# Altium schematic symbol library MyLib.SCHLIB: 88 symbols
Pins are listed as number, name and electrical type; pins without a type are passive.

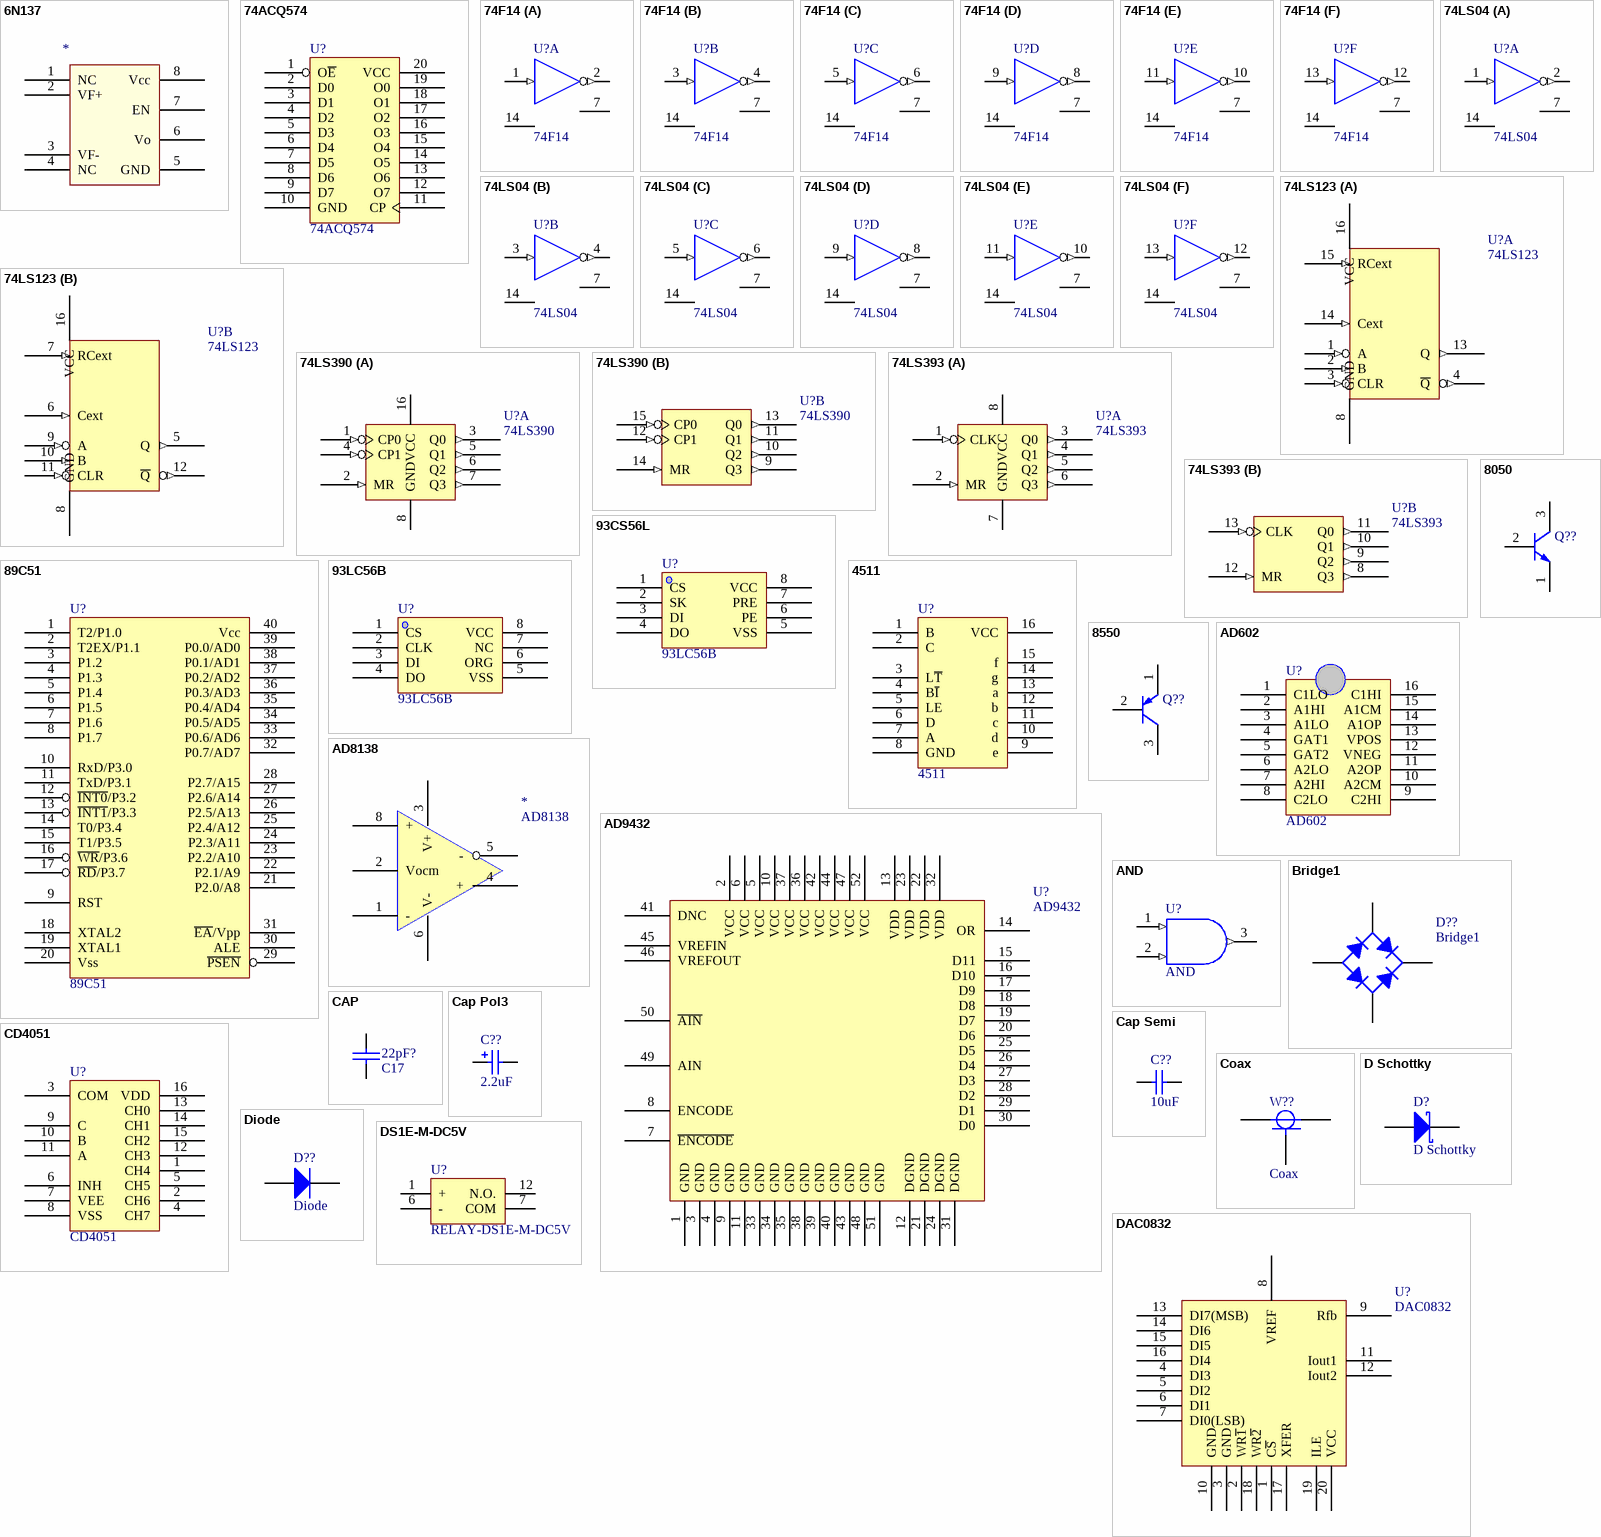
[diagram p0: symbols 6N137 to DS1E-M-DC5V]

## 6N137
designator *  (value not drawn)
pins: 1 NC, 2 VF+, 3 VF-, 4 NC, 5 GND, 6 Vo, 7 EN, 8 Vcc

## 74ACQ574
designator U?
footprint PDIP-20
footprint SOP20
pins: 1 O~{E}, 2 D0, 3 D1, 4 D2, 5 D3, 6 D4, 7 D5, 8 D6, 9 D7, 10 GND, 11 CP, 12 O7, 13 O6, 14 O5, 15 O4, 16 O3, 17 O2, 18 O1, 19 O0, 20 VCC

## 74F14
designator U?
Hex Schmitt-Trigger Inverter
footprint DIP-14
simulation model 74F14 (SIMCODE)
footprint DIP-14
pins on every part: 7 GND (power) hidden to GND, 14 VCC (power) hidden to VCC
part A pins: 1 A (in), 2 Y (out)
part B pins: 3 A (in), 4 Y (out)
part C pins: 5 A (in), 6 Y (out)
part D pins: 8 Y (out), 9 A (in)
part E pins: 10 Y (out), 11 A (in)
part F pins: 12 Y (out), 13 A (in)

## 74LS04
designator U?
Hex Inverter
footprint DIP-14
simulation model 74LS04 (SIMCODE)
footprint DIP-14
pins on every part: 7 GND (power) hidden to GND, 14 VCC (power) hidden to VCC
part A pins: 1 A (in), 2 Y (out)
part B pins: 3 A (in), 4 Y (out)
part C pins: 5 A (in), 6 Y (out)
part D pins: 8 Y (out), 9 A (in)
part E pins: 10 Y (out), 11 A (in)
part F pins: 12 Y (out), 13 A (in)

## 74LS123
designator U?
Part Field 1: 0; Part Field 10: 1000u; Part Field 2: 0; Part Field 3: 0; Part Field 4: 0; Part Field 5: 1; Part Field 6: 0; Part Field 7: 1u; Part Field 8: 1u; Part Field 9: 500u
footprint DIP-16
footprint DIP-16
pins on every part: 8 GND (power) hidden to GND, 16 VCC (power) hidden to VCC
part A pins: 1 A (in), 2 B (in), 3 CLR (in), 4 ~{Q} (out), 13 Q (out), 14 Cext (in), 15 RCext (in)
part B pins: 5 Q (out), 6 Cext (in), 7 RCext (in), 9 A (in), 10 B (in), 11 CLR (in), 12 ~{Q} (out)

## 74LS390
designator U?
Part Field 1: 0; Part Field 10: 1000u; Part Field 2: 0; Part Field 3: 0; Part Field 4: 0; Part Field 5: 1; Part Field 6: 0; Part Field 7: 1u; Part Field 8: 1u; Part Field 9: 500u
footprint DIP-16; pin to pad 16>9
footprint DIP-16; pin to pad 16>9
part A pins: 1 CP0 (in), 2 MR (in), 3 Q0 (out), 4 CP1 (in), 5 Q1 (out), 6 Q2 (out), 7 Q3 (out), 8 GND, 16 VCC
part B pins: 9 Q3 (out), 10 Q2 (out), 11 Q1 (out), 12 CP1 (in), 13 Q0 (out), 14 MR (in), 15 CP0 (in)

## 74LS393
designator U?
Part Field 1: 0; Part Field 10: 1000u; Part Field 2: 0; Part Field 3: 0; Part Field 4: 0; Part Field 5: 1; Part Field 6: 0; Part Field 7: 1u; Part Field 8: 1u; Part Field 9: 500u
footprint DIP-14
footprint DIP-14
part A pins: 1 CLK (in), 2 MR (in), 3 Q0 (out), 4 Q1 (out), 5 Q2 (out), 6 Q3 (out), 7 GND, 8 VCC
part B pins: 8 Q3 (out), 9 Q2 (out), 10 Q1 (out), 11 Q0 (out), 12 MR (in), 13 CLK (in)

## 89C51
designator U?
footprint DIP-40 (Model Description)
pins: 1 T2/P1.0, 2 T2EX/P1.1, 3 P1.2, 4 P1.3, 5 P1.4, 6 P1.5, 7 P1.6, 8 P1.7, 9 RST, 10 RxD/P3.0, 11 TxD/P3.1, 12 ~{INT0}/P3.2, 13 ~{INT1}/P3.3, 14 T0/P3.4, 15 T1/P3.5, 16 ~{WR}/P3.6, 17 ~{RD}/P3.7, 18 XTAL2, 19 XTAL1, 20 Vss, 21 P2.0/A8, 22 P2.1/A9, 23 P2.2/A10, 24 P2.3/A11, 25 P2.4/A12, 26 P2.5/A13, 27 P2.6/A14, 28 P2.7/A15, 29 ~{PSEN}, 30 ALE, 31 ~{EA}/Vpp, 32 P0.7/AD7, 33 P0.6/AD6, 34 P0.5/AD5, 35 P0.4/AD4, 36 P0.3/AD3, 37 P0.2/AD2, 38 P0.1/AD1, 39 P0.0/AD0, 40 Vcc

## 93CS56L
designator U?, comment 93LC56B
93CS56L
footprint PDIP8; pin to pad 3>5 4>6 5>7 6>8 7>3 8>4
footprint DIP-8; pin to pad 3>5 4>6 5>7 6>8 7>3 8>4
pins: 1 CS, 2 SK, 3 DI, 4 DO, 5 VSS, 6 PE, 7 PRE, 8 VCC

## 93LC56B
designator U?
footprint PDIP8; pin to pad 3>5 4>6 5>7 6>8 7>3 8>4
footprint DIP-8; pin to pad 3>5 4>6 5>7 6>8 7>3 8>4
pins: 1 CS, 2 CLK, 3 DI, 4 DO, 5 VSS, 6 ORG, 7 NC, 8 VCC

## 4511
designator U?
footprint dip-16 (Model Description)
pins: 1 B, 2 C, 3 L~{T}, 4 B~{I}, 5 LE, 6 D, 7 A, 8 GND (power), 9 e, 10 d, 11 c, 12 b, 13 a, 14 g, 15 f, 16 VCC (power)

## 8050
designator Q??  (value not drawn)
NPN Bipolar Transistor; Manufacturer: Generic Components; Class: Discrete; SubClass: BJT - Low Power; Published: 08/06/2000; Publisher: Altium Hobart Technology Centre
footprint SO-G3/C2.5 (SOT-23)
simulation model QNPN (NPN)
signal-integrity model NPN
footprint BCY-W3/D4.7 (Model Description)
footprint NPN
pins: 1 e, 2 b, 3 c

## 8550
designator Q??  (value not drawn)
PNP Bipolar Transistor; Manufacturer: Generic Components; Class: Discrete; SubClass: BJT - Low Power; Published: 08/06/2000; Publisher: Altium Hobart Technology Centre
footprint SO-G3/C2.5 (SOT-23)
signal-integrity model PNP
footprint BCY-W3/D4.7 (Model Description)
pins: 1 e, 2 b, 3 c

## AD602
designator U?
footprint DIP-16
footprint SO-G16 (SO16)
pins: 1 C1LO, 2 A1HI, 3 A1LO, 4 GAT1, 5 GAT2, 6 A2LO, 7 A2HI, 8 C2LO, 9 C2HI, 10 A2CM, 11 A2OP, 12 VNEG, 13 VPOS, 14 A1OP, 15 A1CM, 16 C1HI

## AD8138
designator *
pins: 1 -, 2 Vocm, 3 V+, 4 +, 5 -, 6 V-, 8 +

## AD9432
designator U?
footprint TQFP80; pin to pad 45>37 46>38 47>39 48>40 49>41 50>42 51>43 52>44
pins: 1 GND, 2 VCC, 3 GND, 4 GND, 5 VCC, 6 VCC, 7 ~{ENCODE}, 8 ENCODE, 9 GND, 10 VCC, 11 GND, 12 DGND, 13 VDD, 14 OR, 15 D11, 16 D10, 17 D9, 18 D8, 19 D7, 20 D6, 21 DGND, 22 VDD, 23 VDD, 24 DGND, 25 D5, 26 D4, 27 D3, 28 D2, 29 D1, 30 D0, 31 DGND, 32 VDD, 33 GND, 34 GND, 35 GND, 36 VCC, 37 VCC, 38 GND, 39 GND, 40 GND, 41 DNC, 42 VCC, 43 GND, 44 VCC, 45 VREFIN, 46 VREFOUT, 47 VCC, 48 GND, 49 AIN, 50 ~{AIN}, 51 GND, 52 VCC

## AND
designator U?
AND Gate
footprint DIP-14
pins: 1 (in), 2 (in), 3 (out)

## Bridge1
designator D??
Full Wave Diode Bridge; Manufacturer: Generic Components; Class: Discrete; SubClass: Rectifier - Bridge; Published: 08/06/2000; Publisher: Altium Hobart Technology Centre
footprint E-BIP-P4/D10
simulation model BRIDGE (Spice Subcircuit)
pins: 1 A, 2 C, 3 C, 4 K

## CAP
designator 22pF?, comment C17
Capacitor
footprint CC1005-0402 (0402)
footprint RAD0.3
footprint RAD0.4
pins: 1, 2

## Cap Pol3
designator C??  value 2.2uF  (hidden comment: Cap Pol3)
Polarized Capacitor (Surface Mount); Manufacturer: Generic Components; Class: Passive; Published: 08/06/2000; Publisher: Altium Hobart Technology Centre; SubClass: Capacitor
footprint CC3216-1206
simulation model CAP (Capacitor)
signal-integrity model Cap Pol
pins: 1, 2

## Cap Semi
designator C??, comment value 10uF  (hidden comment: Capacitor)
Capacitor (Semiconductor SIM Model); Manufacturer: Generic Components; Class: Passive; Published: 08/06/2000; Publisher: Altium Hobart Technology Centre; SubClass: Capacitor
footprint C3216-1206
simulation model CAP (Semiconductor Capacitor)
signal-integrity model Cap Semi
pins: 1, 2

## CD4051
designator U?
footprint dip-16 (Model Description)
pins: 1 CH4, 2 CH6, 3 COM, 4 CH7, 5 CH5, 6 INH, 7 VEE (power), 8 VSS (power), 9 C, 10 B, 11 A, 12 CH3, 13 CH0, 14 CH1, 15 CH2, 16 VDD (power)

## Coax
designator W??
Coaxial; Manufacturer: Generic Components; Published: 1999
footprint BCY-W3
pins: 1 CENTER 1, 2 CENTER 2, 3 SHIELD

## D Schottky
designator D?
Schottky Diode; Manufacturer: Generic Components; Class: Discrete; SubClass: Diode - Schottky; Published: 08/06/2000; Publisher: Altium Hobart Technology Centre
footprint DSO-C2/X2.3 (DO-214AA)
simulation model SKYDIODE (Diode)
signal-integrity model D Schottky
pins: 1 A, 2 K

## DAC0832
designator U?
pins: 1 C~{S}, 2 WR~{1}, 3 GND, 4 DI3, 5 DI2, 6 DI1, 7 DI0(LSB), 8 VREF, 9 Rfb, 10 GND, 11 Iout1, 12 Iout2, 13 DI7(MSB), 14 DI6, 15 DI5, 16 DI4, 17 XFER, 18 WR~{2}, 19 ILE, 20 VCC

## Diode
designator D??
Default Diode; Manufacturer: Generic Components; Class: Discrete; SubClass: Diode - Switching; Published: 08/06/2000; Publisher: Altium Hobart Technology Centre
footprint DSO-C2/X3.3 (DO-214AB)
simulation model DIODE (Diode)
signal-integrity model Diode
pins: 1 A, 2 K

## DS1E-M-DC5V
designator U?, comment RELAY-DS1E-M-DC5V
footprint DIP-IC12 (Model Description)
pins: 1 +, 6 -, 7 COM, 12 N.O.

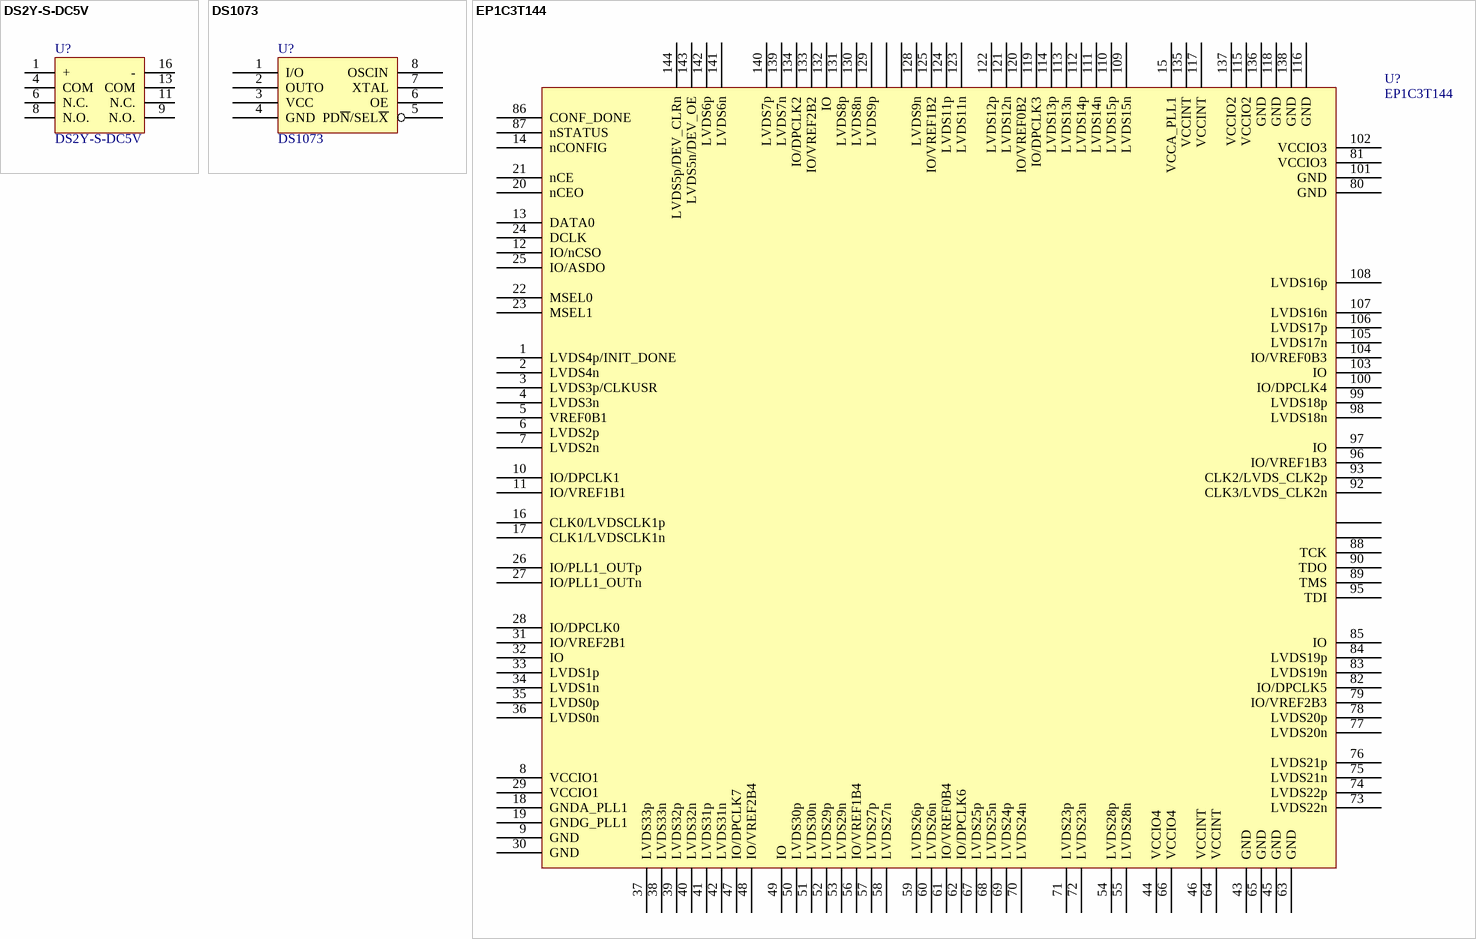
[diagram p1: symbols DS2Y-S-DC5V to EP1C3T144]

## DS2Y-S-DC5V
designator U?
footprint IC-16
pins: 1 +, 4 COM, 6 N.C., 8 N.O., 9 N.O., 11 N.C., 13 COM, 16 -

## DS1073
designator U?
footprint DIP-8
footprint DIP-8
pins: 1 I/O, 2 OUTO, 3 VCC, 4 GND, 5 PD~{N}/SEL~{X}, 6 OE, 7 XTAL, 8 OSCIN

## EP1C3T144
designator U?
footprint F-QFP20X20-G144/N (Model Description)
pins: 1 LVDS4p/INIT_DONE, 2 LVDS4n, 3 LVDS3p/CLKUSR, 4 LVDS3n, 5 VREF0B1, 6 LVDS2p, 7 LVDS2n, 8 VCCIO1, 9 GND, 10 IO/DPCLK1, 11 IO/VREF1B1, 12 IO/nCSO, 13 DATA0, 14 nCONFIG, 15 VCCA_PLL1, 16 CLK0/LVDSCLK1p, 17 CLK1/LVDSCLK1n, 18 GNDA_PLL1, 19 GNDG_PLL1, 20 nCEO, 21 nCE, 22 MSEL0, 23 MSEL1, 24 DCLK, 25 IO/ASDO, 26 IO/PLL1_OUTp, 27 IO/PLL1_OUTn, 28 IO/DPCLK0, 29 VCCIO1, 30 GND, 31 IO/VREF2B1, 32 IO, 33 LVDS1p, 34 LVDS1n, 35 LVDS0p, 36 LVDS0n, 37 LVDS33p, 38 LVDS33n, 39 LVDS32p, 40 LVDS32n, 41 LVDS31p, 42 LVDS31n, 43 GND, 44 VCCIO4, 45 GND, 46 VCCINT, 47 IO/DPCLK7, 48 IO/VREF2B4, 49 IO, 50 LVDS30p, 51 LVDS30n, 52 LVDS29p, 53 LVDS29n, 54 LVDS28p hidden to LVDS28p, 55 LVDS28n hidden to LVDS28n, 56 IO/VREF1B4, 57 LVDS27p, 58 LVDS27n, 59 LVDS26p, 60 LVDS26n, 61 IO/VREF0B4, 62 IO/DPCLK6, 63 GND, 64 VCCINT, 65 GND, 66 VCCIO4, 67 LVDS25p, 68 LVDS25n, 69 LVDS24p, 70 LVDS24n, 71 LVDS23p, 72 LVDS23n, 73 LVDS22n, 74 LVDS22p, 75 LVDS21n, 76 LVDS21p, 77 LVDS20n, 78 LVDS20p, 79 IO/VREF2B3, 80 GND, 81 VCCIO3, 82 IO/DPCLK5, 83 LVDS19n, 84 LVDS19p, 85 IO, 86 CONF_DONE, 87 nSTATUS, 88 TCK, 89 TMS, 90 TDO, 91 IO hidden to IO, 92 CLK3/LVDS_CLK2n, 93 CLK2/LVDS_CLK2p, 94 IO hidden to IO, 95 TDI, 96 IO/VREF1B3, 97 IO, 98 LVDS18n, 99 LVDS18p, 100 IO/DPCLK4, 101 GND, 102 VCCIO3, 103 IO, 104 IO/VREF0B3, 105 LVDS17n, 106 LVDS17p, 107 LVDS16n, 108 LVDS16p, 109 LVDS15n, 110 LVDS15p, 111 LVDS14n, 112 LVDS14p, 113 LVDS13n, 114 LVDS13p, 115 VCCIO2, 116 GND, 117 VCCINT, 118 GND, 119 IO/DPCLK3, 120 IO/VREF0B2, 121 LVDS12n, 122 LVDS12p, 123 LVDS11n, 124 LVDS11p, 125 IO/VREF1B2, 126 LVDS10n hidden to LVDS10n, 127 LVDS10p hidden to LVDS10p, 128 LVDS9n, 129 LVDS9p, 130 LVDS8n, 131 LVDS8p, 132 IO, 133 IO/VREF2B2, 134 IO/DPCLK2, 135 VCCINT, 136 GND, 137 VCCIO2, 138 GND, 139 LVDS7n, 140 LVDS7p, 141 LVDS6n, 142 LVDS6p, 143 LVDS5n/DEV_OE, 144 LVDS5p/DEV_CLRn

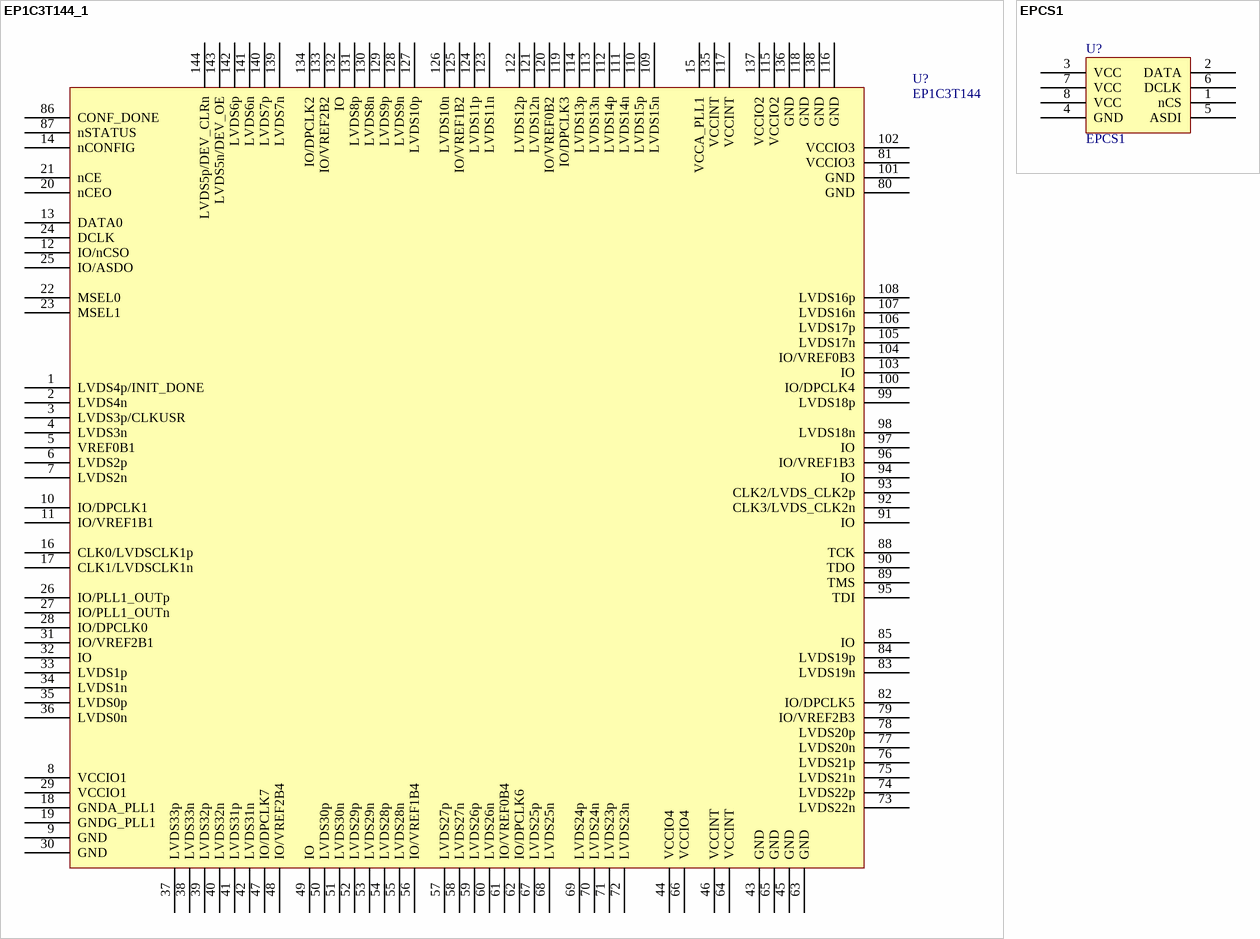
[diagram p2: symbols EP1C3T144_1 to EPCS1]

## EP1C3T144_1
designator U?, comment EP1C3T144
footprint F-QFP20X20-G144/N (Model Description)
pins: 1 LVDS4p/INIT_DONE, 2 LVDS4n, 3 LVDS3p/CLKUSR, 4 LVDS3n, 5 VREF0B1, 6 LVDS2p, 7 LVDS2n, 8 VCCIO1, 9 GND, 10 IO/DPCLK1, 11 IO/VREF1B1, 12 IO/nCSO, 13 DATA0, 14 nCONFIG, 15 VCCA_PLL1, 16 CLK0/LVDSCLK1p, 17 CLK1/LVDSCLK1n, 18 GNDA_PLL1, 19 GNDG_PLL1, 20 nCEO, 21 nCE, 22 MSEL0, 23 MSEL1, 24 DCLK, 25 IO/ASDO, 26 IO/PLL1_OUTp, 27 IO/PLL1_OUTn, 28 IO/DPCLK0, 29 VCCIO1, 30 GND, 31 IO/VREF2B1, 32 IO, 33 LVDS1p, 34 LVDS1n, 35 LVDS0p, 36 LVDS0n, 37 LVDS33p, 38 LVDS33n, 39 LVDS32p, 40 LVDS32n, 41 LVDS31p, 42 LVDS31n, 43 GND, 44 VCCIO4, 45 GND, 46 VCCINT, 47 IO/DPCLK7, 48 IO/VREF2B4, 49 IO, 50 LVDS30p, 51 LVDS30n, 52 LVDS29p, 53 LVDS29n, 54 LVDS28p, 55 LVDS28n, 56 IO/VREF1B4, 57 LVDS27p, 58 LVDS27n, 59 LVDS26p, 60 LVDS26n, 61 IO/VREF0B4, 62 IO/DPCLK6, 63 GND, 64 VCCINT, 65 GND, 66 VCCIO4, 67 LVDS25p, 68 LVDS25n, 69 LVDS24p, 70 LVDS24n, 71 LVDS23p, 72 LVDS23n, 73 LVDS22n, 74 LVDS22p, 75 LVDS21n, 76 LVDS21p, 77 LVDS20n, 78 LVDS20p, 79 IO/VREF2B3, 80 GND, 81 VCCIO3, 82 IO/DPCLK5, 83 LVDS19n, 84 LVDS19p, 85 IO, 86 CONF_DONE, 87 nSTATUS, 88 TCK, 89 TMS, 90 TDO, 91 IO, 92 CLK3/LVDS_CLK2n, 93 CLK2/LVDS_CLK2p, 94 IO, 95 TDI, 96 IO/VREF1B3, 97 IO, 98 LVDS18n, 99 LVDS18p, 100 IO/DPCLK4, 101 GND, 102 VCCIO3, 103 IO, 104 IO/VREF0B3, 105 LVDS17n, 106 LVDS17p, 107 LVDS16n, 108 LVDS16p, 109 LVDS15n, 110 LVDS15p, 111 LVDS14n, 112 LVDS14p, 113 LVDS13n, 114 LVDS13p, 115 VCCIO2, 116 GND, 117 VCCINT, 118 GND, 119 IO/DPCLK3, 120 IO/VREF0B2, 121 LVDS12n, 122 LVDS12p, 123 LVDS11n, 124 LVDS11p, 125 IO/VREF1B2, 126 LVDS10n, 127 LVDS10p, 128 LVDS9n, 129 LVDS9p, 130 LVDS8n, 131 LVDS8p, 132 IO, 133 IO/VREF2B2, 134 IO/DPCLK2, 135 VCCINT, 136 GND, 137 VCCIO2, 138 GND, 139 LVDS7n, 140 LVDS7p, 141 LVDS6n, 142 LVDS6p, 143 LVDS5n/DEV_OE, 144 LVDS5p/DEV_CLRn

## EPCS1
designator U?
footprint SO-G8 (Model Description)
footprint SO-G8 (Model Description)
pins: 1 nCS, 2 DATA, 3 VCC, 4 GND, 5 ASDI, 6 DCLK, 7 VCC, 8 VCC

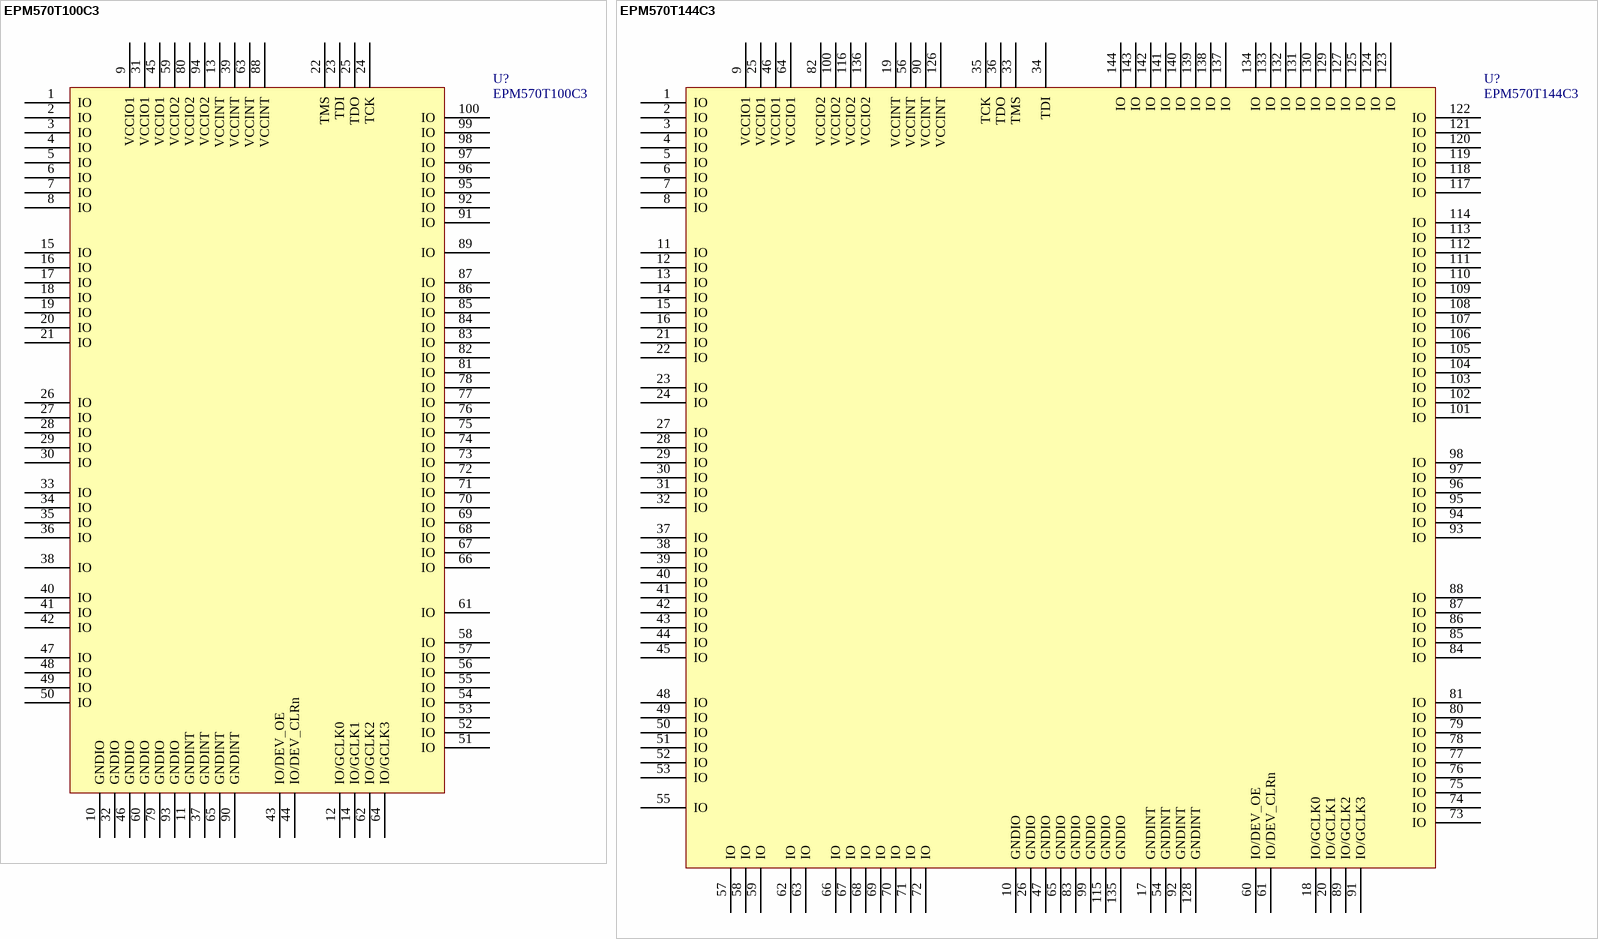
[diagram p3: symbols EPM570T100C3 to EPM570T144C3]

## EPM570T100C3
designator U?
footprint F-QFP14X14-G100/N (TQFP100)
pins: 1 IO, 2 IO, 3 IO, 4 IO, 5 IO, 6 IO, 7 IO, 8 IO, 9 VCCIO1, 10 GNDIO, 11 GNDINT, 12 IO/GCLK0, 13 VCCINT, 14 IO/GCLK1, 15 IO, 16 IO, 17 IO, 18 IO, 19 IO, 20 IO, 21 IO, 22 TMS, 23 TDI, 24 TCK, 25 TDO, 26 IO, 27 IO, 28 IO, 29 IO, 30 IO, 31 VCCIO1, 32 GNDIO, 33 IO, 34 IO, 35 IO, 36 IO, 37 GNDINT, 38 IO, 39 VCCINT, 40 IO, 41 IO, 42 IO, 43 IO/DEV_OE, 44 IO/DEV_CLRn, 45 VCCIO1, 46 GNDIO, 47 IO, 48 IO, 49 IO, 50 IO, 51 IO, 52 IO, 53 IO, 54 IO, 55 IO, 56 IO, 57 IO, 58 IO, 59 VCCIO2, 60 GNDIO, 61 IO, 62 IO/GCLK2, 63 VCCINT, 64 IO/GCLK3, 65 GNDINT, 66 IO, 67 IO, 68 IO, 69 IO, 70 IO, 71 IO, 72 IO, 73 IO, 74 IO, 75 IO, 76 IO, 77 IO, 78 IO, 79 GNDIO, 80 VCCIO2, 81 IO, 82 IO, 83 IO, 84 IO, 85 IO, 86 IO, 87 IO, 88 VCCINT, 89 IO, 90 GNDINT, 91 IO, 92 IO, 93 GNDIO, 94 VCCIO2, 95 IO, 96 IO, 97 IO, 98 IO, 99 IO, 100 IO

## EPM570T144C3
designator U?
footprint F-QFP20X20-G144/N (Model Description)
pins: 1 IO, 2 IO, 3 IO, 4 IO, 5 IO, 6 IO, 7 IO, 8 IO, 9 VCCIO1, 10 GNDIO, 11 IO, 12 IO, 13 IO, 14 IO, 15 IO, 16 IO, 17 GNDINT, 18 IO/GCLK0, 19 VCCINT, 20 IO/GCLK1, 21 IO, 22 IO, 23 IO, 24 IO, 25 VCCIO1, 26 GNDIO, 27 IO, 28 IO, 29 IO, 30 IO, 31 IO, 32 IO, 33 TMS, 34 TDI, 35 TCK, 36 TDO, 37 IO, 38 IO, 39 IO, 40 IO, 41 IO, 42 IO, 43 IO, 44 IO, 45 IO, 46 VCCIO1, 47 GNDIO, 48 IO, 49 IO, 50 IO, 51 IO, 52 IO, 53 IO, 54 GNDINT, 55 IO, 56 VCCINT, 57 IO, 58 IO, 59 IO, 60 IO/DEV_OE, 61 IO/DEV_CLRn, 62 IO, 63 IO, 64 VCCIO1, 65 GNDIO, 66 IO, 67 IO, 68 IO, 69 IO, 70 IO, 71 IO, 72 IO, 73 IO, 74 IO, 75 IO, 76 IO, 77 IO, 78 IO, 79 IO, 80 IO, 81 IO, 82 VCCIO2, 83 GNDIO, 84 IO, 85 IO, 86 IO, 87 IO, 88 IO, 89 IO/GCLK2, 90 VCCINT, 91 IO/GCLK3, 92 GNDINT, 93 IO, 94 IO, 95 IO, 96 IO, 97 IO, 98 IO, 99 GNDIO, 100 VCCIO2, 101 IO, 102 IO, 103 IO, 104 IO, 105 IO, 106 IO, 107 IO, 108 IO, 109 IO, 110 IO, 111 IO, 112 IO, 113 IO, 114 IO, 115 GNDIO, 116 VCCIO2, 117 IO, 118 IO, 119 IO, 120 IO, 121 IO, 122 IO, 123 IO, 124 IO, 125 IO, 126 VCCINT, 127 IO, 128 GNDINT, 129 IO, 130 IO, 131 IO, 132 IO, 133 IO, 134 IO, 135 GNDIO, 136 VCCIO2, 137 IO, 138 IO, 139 IO, 140 IO, 141 IO, 142 IO, 143 IO, 144 IO

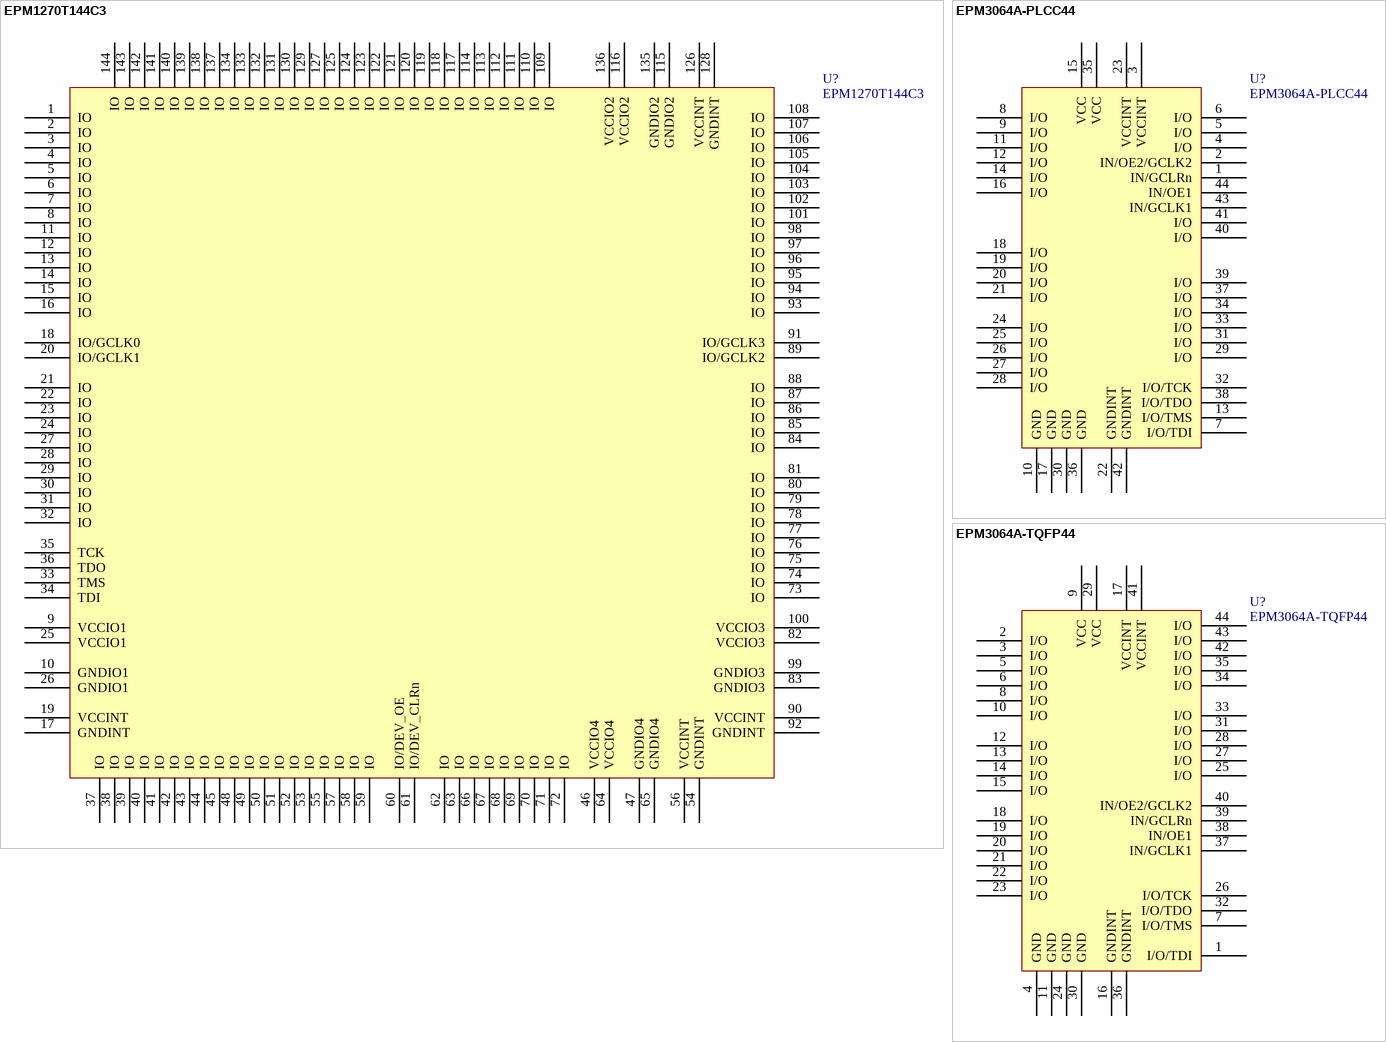
[diagram p4: symbols EPM1270T144C3 to EPM3064A-TQFP44]

## EPM1270T144C3
designator U?
footprint F-QFP20X20-G144/N (Model Description)
pins: 1 IO, 2 IO, 3 IO, 4 IO, 5 IO, 6 IO, 7 IO, 8 IO, 9 VCCIO1, 10 GNDIO1, 11 IO, 12 IO, 13 IO, 14 IO, 15 IO, 16 IO, 17 GNDINT, 18 IO/GCLK0, 19 VCCINT, 20 IO/GCLK1, 21 IO, 22 IO, 23 IO, 24 IO, 25 VCCIO1, 26 GNDIO1, 27 IO, 28 IO, 29 IO, 30 IO, 31 IO, 32 IO, 33 TMS, 34 TDI, 35 TCK, 36 TDO, 37 IO, 38 IO, 39 IO, 40 IO, 41 IO, 42 IO, 43 IO, 44 IO, 45 IO, 46 VCCIO4, 47 GNDIO4, 48 IO, 49 IO, 50 IO, 51 IO, 52 IO, 53 IO, 54 GNDINT, 55 IO, 56 VCCINT, 57 IO, 58 IO, 59 IO, 60 IO/DEV_OE, 61 IO/DEV_CLRn, 62 IO, 63 IO, 64 VCCIO4, 65 GNDIO4, 66 IO, 67 IO, 68 IO, 69 IO, 70 IO, 71 IO, 72 IO, 73 IO, 74 IO, 75 IO, 76 IO, 77 IO, 78 IO, 79 IO, 80 IO, 81 IO, 82 VCCIO3, 83 GNDIO3, 84 IO, 85 IO, 86 IO, 87 IO, 88 IO, 89 IO/GCLK2, 90 VCCINT, 91 IO/GCLK3, 92 GNDINT, 93 IO, 94 IO, 95 IO, 96 IO, 97 IO, 98 IO, 99 GNDIO3, 100 VCCIO3, 101 IO, 102 IO, 103 IO, 104 IO, 105 IO, 106 IO, 107 IO, 108 IO, 109 IO, 110 IO, 111 IO, 112 IO, 113 IO, 114 IO, 115 GNDIO2, 116 VCCIO2, 117 IO, 118 IO, 119 IO, 120 IO, 121 IO, 122 IO, 123 IO, 124 IO, 125 IO, 126 VCCINT, 127 IO, 128 GNDINT, 129 IO, 130 IO, 131 IO, 132 IO, 133 IO, 134 IO, 135 GNDIO2, 136 VCCIO2, 137 IO, 138 IO, 139 IO, 140 IO, 141 IO, 142 IO, 143 IO, 144 IO

## EPM3064A-PLCC44
designator U?
footprint PLCC44 - CenterIndex (Model Description)
pins: 1 IN/GCLRn, 2 IN/OE2/GCLK2, 3 VCCINT, 4 I/O, 5 I/O, 6 I/O, 7 I/O/TDI, 8 I/O, 9 I/O, 10 GND, 11 I/O, 12 I/O, 13 I/O/TMS, 14 I/O, 15 VCC, 16 I/O, 17 GND, 18 I/O, 19 I/O, 20 I/O, 21 I/O, 22 GNDINT, 23 VCCINT, 24 I/O, 25 I/O, 26 I/O, 27 I/O, 28 I/O, 29 I/O, 30 GND, 31 I/O, 32 I/O/TCK, 33 I/O, 34 I/O, 35 VCC, 36 GND, 37 I/O, 38 I/O/TDO, 39 I/O, 40 I/O, 41 I/O, 42 GNDINT, 43 IN/GCLK1, 44 IN/OE1

## EPM3064A-TQFP44
designator U?
footprint Model Name (Model Description)
pins: 1 I/O/TDI, 2 I/O, 3 I/O, 4 GND, 5 I/O, 6 I/O, 7 I/O/TMS, 8 I/O, 9 VCC, 10 I/O, 11 GND, 12 I/O, 13 I/O, 14 I/O, 15 I/O, 16 GNDINT, 17 VCCINT, 18 I/O, 19 I/O, 20 I/O, 21 I/O, 22 I/O, 23 I/O, 24 GND, 25 I/O, 26 I/O/TCK, 27 I/O, 28 I/O, 29 VCC, 30 GND, 31 I/O, 32 I/O/TDO, 33 I/O, 34 I/O, 35 I/O, 36 GNDINT, 37 IN/GCLK1, 38 IN/OE1, 39 IN/GCLRn, 40 IN/OE2/GCLK2, 41 VCCINT, 42 I/O, 43 I/O, 44 I/O

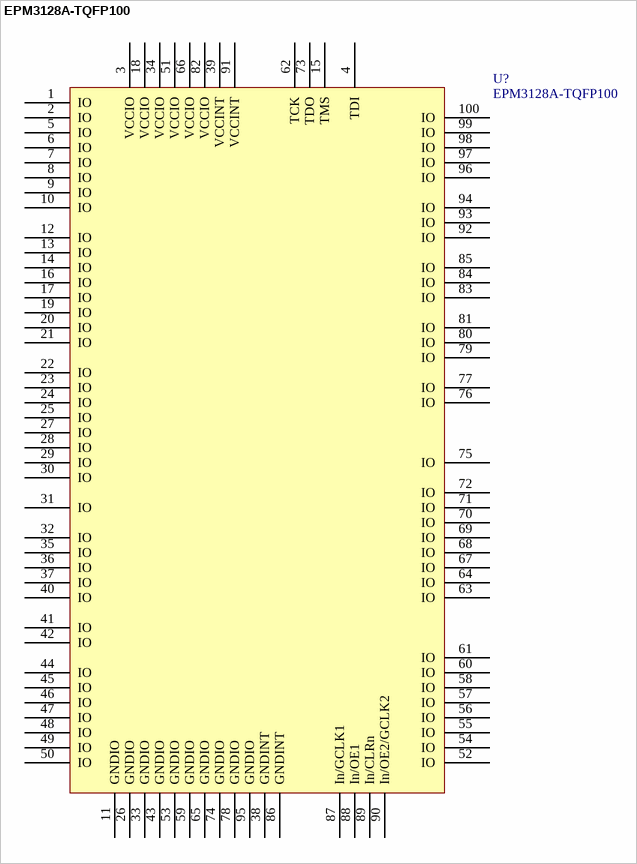
[diagram p5: symbol EPM3128A-TQFP100]

## EPM3128A-TQFP100
designator U?
footprint F-QFP14X14-G100/N (TQFP100)
pins: 1 IO, 2 IO, 3 VCCIO, 4 TDI, 5 IO, 6 IO, 7 IO, 8 IO, 9 IO, 10 IO, 11 GNDIO, 12 IO, 13 IO, 14 IO, 15 TMS, 16 IO, 17 IO, 18 VCCIO, 19 IO, 20 IO, 21 IO, 22 IO, 23 IO, 24 IO, 25 IO, 26 GNDIO, 27 IO, 28 IO, 29 IO, 30 IO, 31 IO, 32 IO, 33 GNDIO, 34 VCCIO, 35 IO, 36 IO, 37 IO, 38 GNDINT, 39 VCCINT, 40 IO, 41 IO, 42 IO, 43 GNDIO, 44 IO, 45 IO, 46 IO, 47 IO, 48 IO, 49 IO, 50 IO, 51 VCCIO, 52 IO, 53 GNDIO, 54 IO, 55 IO, 56 IO, 57 IO, 58 IO, 59 GNDIO, 60 IO, 61 IO, 62 TCK, 63 IO, 64 IO, 65 GNDIO, 66 VCCIO, 67 IO, 68 IO, 69 IO, 70 IO, 71 IO, 72 IO, 73 TDO, 74 GNDIO, 75 IO, 76 IO, 77 IO, 78 GNDIO, 79 IO, 80 IO, 81 IO, 82 VCCIO, 83 IO, 84 IO, 85 IO, 86 GNDINT, 87 In/GCLK1, 88 In/OE1, 89 In/CLRn, 90 In/OE2/GCLK2, 91 VCCINT, 92 IO, 93 IO, 94 IO, 95 GNDIO, 96 IO, 97 IO, 98 IO, 99 IO, 100 IO

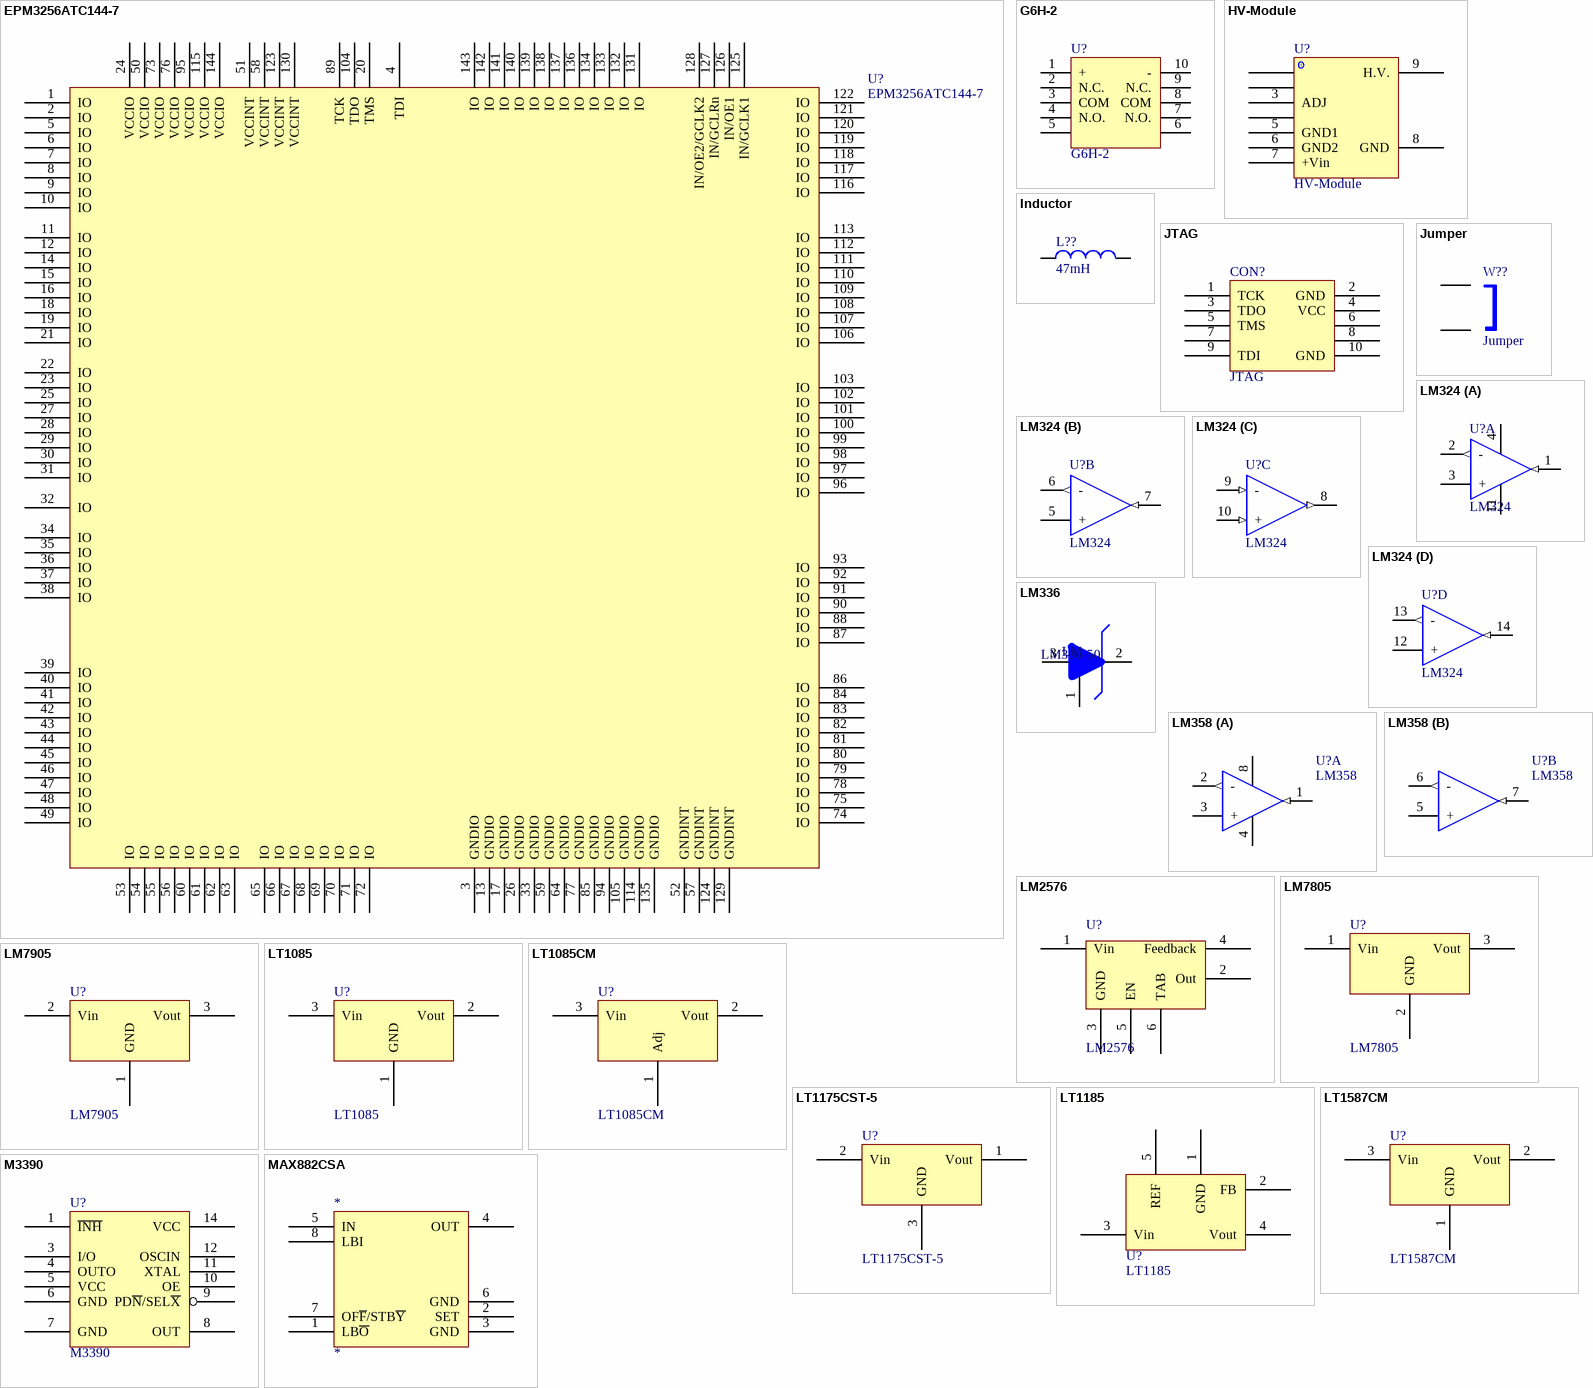
[diagram p6: symbols EPM3256ATC144-7 to MAX882CSA]

## EPM3256ATC144-7
designator U?
footprint F-QFP20X20-G144/N (Model Description)
pins: 1 IO, 2 IO, 3 GNDIO, 4 TDI, 5 IO, 6 IO, 7 IO, 8 IO, 9 IO, 10 IO, 11 IO, 12 IO, 13 GNDIO, 14 IO, 15 IO, 16 IO, 17 GNDIO, 18 IO, 19 IO, 20 TMS, 21 IO, 22 IO, 23 IO, 24 VCCIO, 25 IO, 26 GNDIO, 27 IO, 28 IO, 29 IO, 30 IO, 31 IO, 32 IO, 33 GNDIO, 34 IO, 35 IO, 36 IO, 37 IO, 38 IO, 39 IO, 40 IO, 41 IO, 42 IO, 43 IO, 44 IO, 45 IO, 46 IO, 47 IO, 48 IO, 49 IO, 50 VCCIO, 51 VCCINT, 52 GNDINT, 53 IO, 54 IO, 55 IO, 56 IO, 57 GNDINT, 58 VCCINT, 59 GNDIO, 60 IO, 61 IO, 62 IO, 63 IO, 64 GNDIO, 65 IO, 66 IO, 67 IO, 68 IO, 69 IO, 70 IO, 71 IO, 72 IO, 73 VCCIO, 74 IO, 75 IO, 76 VCCIO, 77 GNDIO, 78 IO, 79 IO, 80 IO, 81 IO, 82 IO, 83 IO, 84 IO, 85 GNDIO, 86 IO, 87 IO, 88 IO, 89 TCK, 90 IO, 91 IO, 92 IO, 93 IO, 94 GNDIO, 95 VCCIO, 96 IO, 97 IO, 98 IO, 99 IO, 100 IO, 101 IO, 102 IO, 103 IO, 104 TDO, 105 GNDIO, 106 IO, 107 IO, 108 IO, 109 IO, 110 IO, 111 IO, 112 IO, 113 IO, 114 GNDIO, 115 VCCIO, 116 IO, 117 IO, 118 IO, 119 IO, 120 IO, 121 IO, 122 IO, 123 VCCINT, 124 GNDINT, 125 IN/GCLK1, 126 IN/OE1, 127 IN/GCLRn, 128 IN/OE2/GCLK2, 129 GNDINT, 130 VCCINT, 131 IO, 132 IO, 133 IO, 134 IO, 135 GNDIO, 136 IO, 137 IO, 138 IO, 139 IO, 140 IO, 141 IO, 142 IO, 143 IO, 144 VCCIO

## G6H-2
designator U?
footprint DIP-10 (Model Description); pin to pad 2>6 3>4 5>8 6>4 7>9 8>13 9>11 10>16
pins: 1 +, 2 N.C., 3 COM, 4 N.O., 5, 6, 7 N.O., 8 COM, 9 N.C., 10 -

## HV-Module
designator U?
footprint PDIP8; pin to pad 3>5 4>6 5>7 6>8 7>11 8>12 9>13
footprint DIP-8; pin to pad 3>5 4>6 5>7 6>8 7>11 8>12 9>13
pins: 1 Vdis hidden to Vdis, 2 Vref hidden to Vref, 3 ADJ, 4 R/S hidden to R/S, 5 GND1, 6 GND2, 7 +Vin, 8 GND, 9 H.V.

## Inductor
designator L??  value 47mH  (hidden comment: Inductor)
Manufacturer: Generic Components; Class: Passive; Published: 08/06/2000; Publisher: Altium Hobart Technology Centre; SubClass: Inductor
footprint C1005-0402
simulation model INDUCTOR (Inductor)
signal-integrity model Inductor
pins: 1, 2

## JTAG
designator CON?
footprint HDR2X5 (Model Description)
footprint HDR2X5 (Model Description)
pins: 1 TCK, 2 GND, 3 TDO, 4 VCC, 5 TMS, 6 NC, 7 NC, 8 NC, 9 TDI, 10 GND

## Jumper
designator W??
Jumper Wire; Manufacturer: Generic Components; Published: 1999
footprint RAD-0.2
pins: 1, 2

## LM324
designator U?
part A pins: 1 A (in), 2 - (out), 3 +, 4, 11
part B pins: 5 +, 6 - (out), 7 A (in)
part C pins: 8 (out), 9 - (in), 10 + (in)
part D pins: 12 +, 13 - (out), 14 (in)

## LM336
designator LM, comment LM336-50
NPN Bipolar Transistor; Manufacturer: Generic Components; Class: Discrete; SubClass: BJT - Low Power; Published: 08/06/2000; Publisher: Altium Hobart Technology Centre
footprint SO-G3/C2.5 (SOT-23)
simulation model QNPN (NPN)
signal-integrity model NPN
footprint BCY-W3/D4.7 (Model Description)
footprint NPN
pins: 1 adj, 2 A, 3 K

## LM358
designator U?
footprint dip-8 (Model Description)
part A pins: 1 A (in), 2 - (out), 3 +, 4 VEE/GND (power), 8 Vcc (power)
part B pins: 5 +, 6 - (out), 7 A (in)

## LM2576
designator U?
pins: 1 Vin, 2 Out, 3 GND, 4 Feedback, 5 EN, 6 TAB

## LM7805
designator U?
pins: 1 Vin, 2 GND, 3 Vout

## LM7905
designator U?
pins: 1 GND, 2 Vin, 3 Vout

## LT1085
designator U?
footprint TO-220 (Model Description)
pins: 1 GND, 2 Vout, 3 Vin

## LT1085CM
designator U?
footprint TO-220 (Model Description)
pins: 1 Adj, 2 Vout, 3 Vin

## LT1175CST-5
designator U?
footprint SOT223 (Model Description)
pins: 1 Vout, 2 Vin, 3 GND

## LT1185
designator U?
footprint LT1185CQ (Model Description)
pins: 1 GND, 2 FB, 3 Vin, 4 Vout, 5 REF

## LT1587CM
designator U?
footprint DD-PAK (Model Description)
pins: 1 GND, 2 Vout, 3 Vin

## M3390
designator U?
footprint DIP-14 (Model Description); pin to pad 1>19 6>2 9>1 10>18 11>17 12>16
pins: 1 ~{INH}, 3 I/O, 4 OUTO, 5 VCC, 6 GND, 7 GND, 8 OUT, 9 PD~{N}/SEL~{X}, 10 OE, 11 XTAL, 12 OSCIN, 14 VCC

## MAX882CSA
designator *
pins: 1 LB~{O}, 2 SET, 3 GND, 4 OUT, 5 IN, 6 GND, 7 OF~{F}/STB~{Y}, 8 LBI

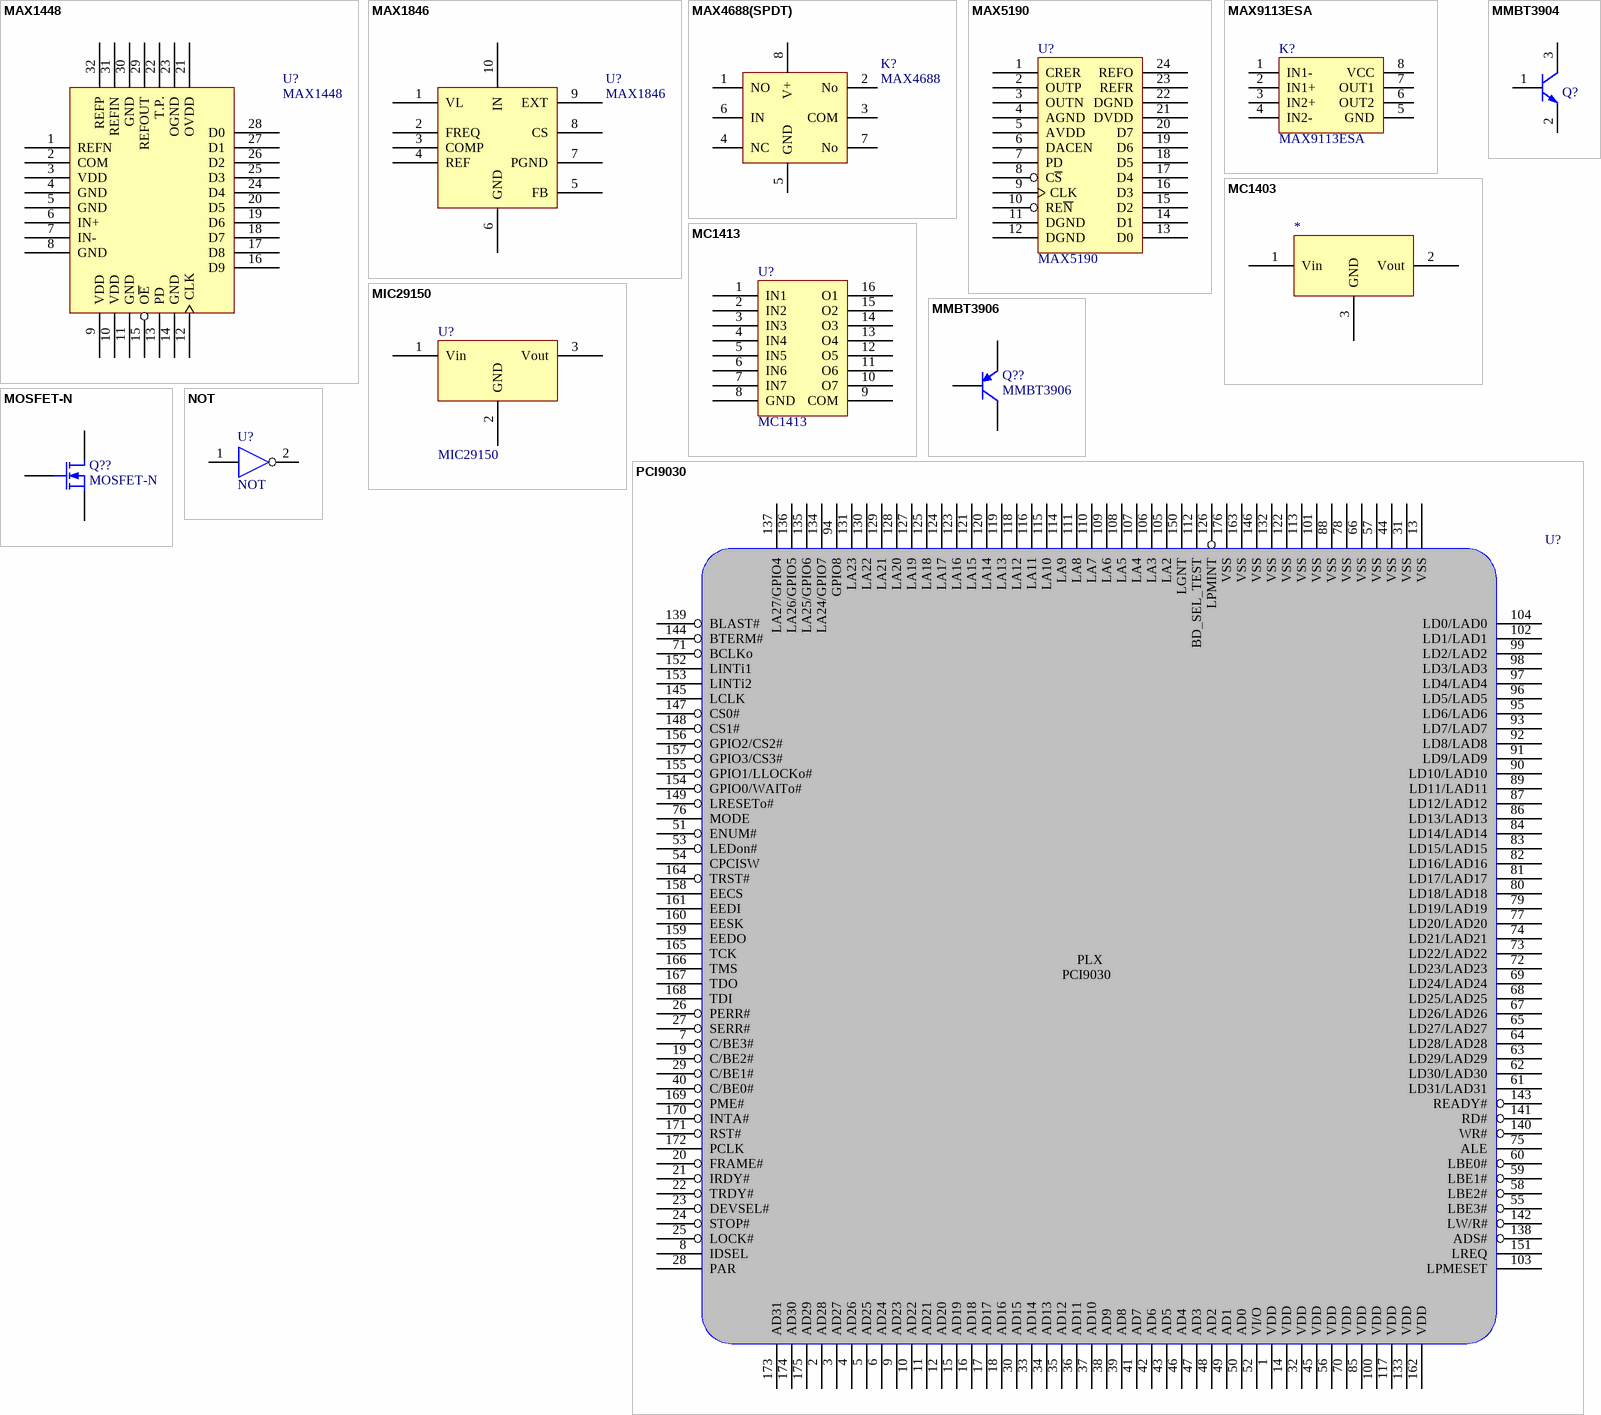
[diagram p7: symbols MAX1448 to PCI9030]

## MAX1448
designator U?
footprint TQFP-32
pins: 1 REFN, 2 COM, 3 VDD, 4 GND, 5 GND, 6 IN+, 7 IN-, 8 GND, 9 VDD, 10 VDD, 11 GND, 12 CLK, 13 PD, 14 GND, 15 O~{E}, 16 D9, 17 D8, 18 D7, 19 D6, 20 D5, 21 OVDD, 22 T.P., 23 OGND, 24 D4, 25 D3, 26 D2, 27 D1, 28 D0, 29 REFOUT, 30 GND, 31 REFIN, 32 REFP

## MAX1846
designator U?
footprint uMAX10 (¦ÌMax10)
pins: 1 VL, 2 FREQ, 3 COMP, 4 REF, 5 FB, 6 GND, 7 PGND, 8 CS, 9 EXT, 10 IN

## MAX4688(SPDT)
designator K?, comment MAX4688
footprint 6UCSP-6; pin to pad 1>A1 2>A2 5>B3 6>B2 7>A3 8>B1
footprint DIP8; pin to pad 1>A1 2>A2 5>B3 6>B2 7>A3 8>B1
pins: 1 NO, 2 No, 3 COM, 4 NC, 5 GND, 6 IN, 7 No, 8 V+

## MAX5190
designator U?
footprint QSOP-24
footprint QSOP24
pins: 1 CRER, 2 OUTP, 3 OUTN, 4 AGND, 5 AVDD, 6 DACEN, 7 PD, 8 C~{S}, 9 CLK, 10 RE~{N}, 11 DGND, 12 DGND, 13 D0, 14 D1, 15 D2, 16 D3, 17 D4, 18 D5, 19 D6, 20 D7, 21 DVDD, 22 DGND, 23 REFR, 24 REFO

## MAX9113ESA
designator K?
footprint 6UCSP-6; pin to pad 1>A1 2>A2 5>B3 6>B2 7>A3 8>B1
footprint DIP8; pin to pad 1>A1 2>A2 5>B3 6>B2 7>A3 8>B1
footprint SO-G8 (Model Description)
pins: 1 IN1-, 2 IN1+, 3 IN2+, 4 IN2-, 5 GND, 6 OUT2, 7 OUT1, 8 VCC

## MC1403
designator *
footprint SOIC-8
pins: 1 Vin, 2 Vout, 3 GND

## MC1413
designator U?
footprint dip-16 (Model Description)
pins: 1 IN1, 2 IN2, 3 IN3, 4 IN4, 5 IN5, 6 IN6, 7 IN7, 8 GND, 9 COM, 10 O7, 11 O6, 12 O5, 13 O4, 14 O3, 15 O2, 16 O1

## MIC29150
designator U?
pins: 1 Vin, 2 GND, 3 Vout

## MMBT3904
designator Q?  (value not drawn)
NPN Bipolar Transistor; Manufacturer: Generic Components; Class: Discrete; SubClass: BJT - Low Power; Published: 08/06/2000; Publisher: Altium Hobart Technology Centre
footprint SOT-23 (Model Description)
pins: 1 b, 2 e, 3 c

## MMBT3906
designator Q??
PNP Bipolar Transistor; Manufacturer: Generic Components; Class: Discrete; SubClass: BJT - Low Power; Published: 08/06/2000; Publisher: Altium Hobart Technology Centre
footprint SOT-23 (Model Description)
pins: 1 b, 2 e, 3 c

## MOSFET-N
designator Q??
N-Channel MOSFET; Manufacturer: Generic Components; Class: Discrete; SubClass: MOSFET - Low Power; Published: 08/06/2000; Publisher: Altium Hobart Technology Centre
footprint BCY-W3/H.8
simulation model NMOS (MOSFET-N)
pins: 1 G, 2 D, 3 S

## NOT
designator U?
pins: 1, 2

## PCI9030
designator U?
Part Field 1: 0; Part Field 10: 1000u; Part Field 2: 0; Part Field 3: 0; Part Field 4: 0; Part Field 5: 1; Part Field 6: 0; Part Field 7: 1u; Part Field 8: 1u; Part Field 9: 500u
footprint PQFP176
pins: 1 VDD, 2 AD28, 3 AD27, 4 AD26, 5 AD25, 6 AD24, 7 C/BE3#, 8 IDSEL, 9 AD23, 10 AD22, 11 AD21, 12 AD20, 13 VSS, 14 VDD, 15 AD19, 16 AD18, 17 AD17, 18 AD16, 19 C/BE2#, 20 FRAME#, 21 IRDY#, 22 TRDY#, 23 DEVSEL#, 24 STOP#, 25 LOCK#, 26 PERR#, 27 SERR#, 28 PAR, 29 C/BE1#, 30 AD15, 31 VSS, 32 VDD, 33 AD14, 34 AD13, 35 AD12, 36 AD11, 37 AD10, 38 AD9, 39 AD8, 40 C/BE0#, 41 AD7, 42 AD6, 43 AD5, 44 VSS, 45 VDD, 46 AD4, 47 AD3, 48 AD2, 49 AD1, 50 AD0, 51 ENUM#, 52 VI/O, 53 LEDon#, 54 CPCISW, 55 LBE3#, 56 VDD, 57 VSS, 58 LBE2#, 59 LBE1#, 60 LBE0#, 61 LD31/LAD31, 62 LD30/LAD30, 63 LD29/LAD29, 64 LD28/LAD28, 65 LD27/LAD27, 66 VSS, 67 LD26/LAD26, 68 LD25/LAD25, 69 LD24/LAD24, 70 VDD, 71 BCLKo, 72 LD23/LAD23, 73 LD22/LAD22, 74 LD21/LAD21, 75 ALE, 76 MODE, 77 LD20/LAD20, 78 VSS, 79 LD19/LAD19, 80 LD18/LAD18, 81 LD17/LAD17, 82 LD16/LAD16, 83 LD15/LAD15, 84 LD14/LAD14, 85 VDD, 86 LD13/LAD13, 87 LD12/LAD12, 88 VSS, 89 LD11/LAD11, 90 LD10/LAD10, 91 LD9/LAD9, 92 LD8/LAD8, 93 LD7/LAD7, 94 GPIO8, 95 LD6/LAD6, 96 LD5/LAD5, 97 LD4/LAD4, 98 LD3/LAD3, 99 LD2/LAD2, 100 VDD, 101 VSS, 102 LD1/LAD1, 103 LPMESET, 104 LD0/LAD0, 105 LA2, 106 LA3, 107 LA4, 108 LA5, 109 LA6, 110 LA7, 111 LA8, 112 BD_SEL_TEST, 113 VSS, 114 LA9, 115 LA10, 116 LA11, 117 VDD, 118 LA12, 119 LA13, 120 LA14, 121 LA15, 122 VSS, 123 LA16, 124 LA17, 125 LA18, 126 LPMINT, 127 LA19, 128 LA20, 129 LA21, 130 LA22, 131 LA23, 132 VSS, 133 VDD, 134 LA24/GPIO7, 135 LA25/GPIO6, 136 LA26/GPIO5, 137 LA27/GPIO4, 138 ADS#, 139 BLAST#, 140 WR#, 141 RD#, 142 LW/R#, 143 READY#, 144 BTERM#, 145 LCLK, 146 VSS, 147 CS0#, 148 CS1#, 149 LRESETo#, 150 LGNT, 151 LREQ, 152 LINTi1, 153 LINTi2, 154 GPIO0/WAITo#, 155 GPIO1/LLOCKo#, 156 GPIO2/CS2#, 157 GPIO3/CS3#, 158 EECS, 159 EEDO, 160 EESK, 161 EEDI, 162 VDD, 163 VSS, 164 TRST#, 165 TCK, 166 TMS, 167 TDO, 168 TDI, 169 PME#, 170 INTA#, 171 RST#, 172 PCLK, 173 AD31, 174 AD30, 175 AD29, 176 VSS
text: PLX

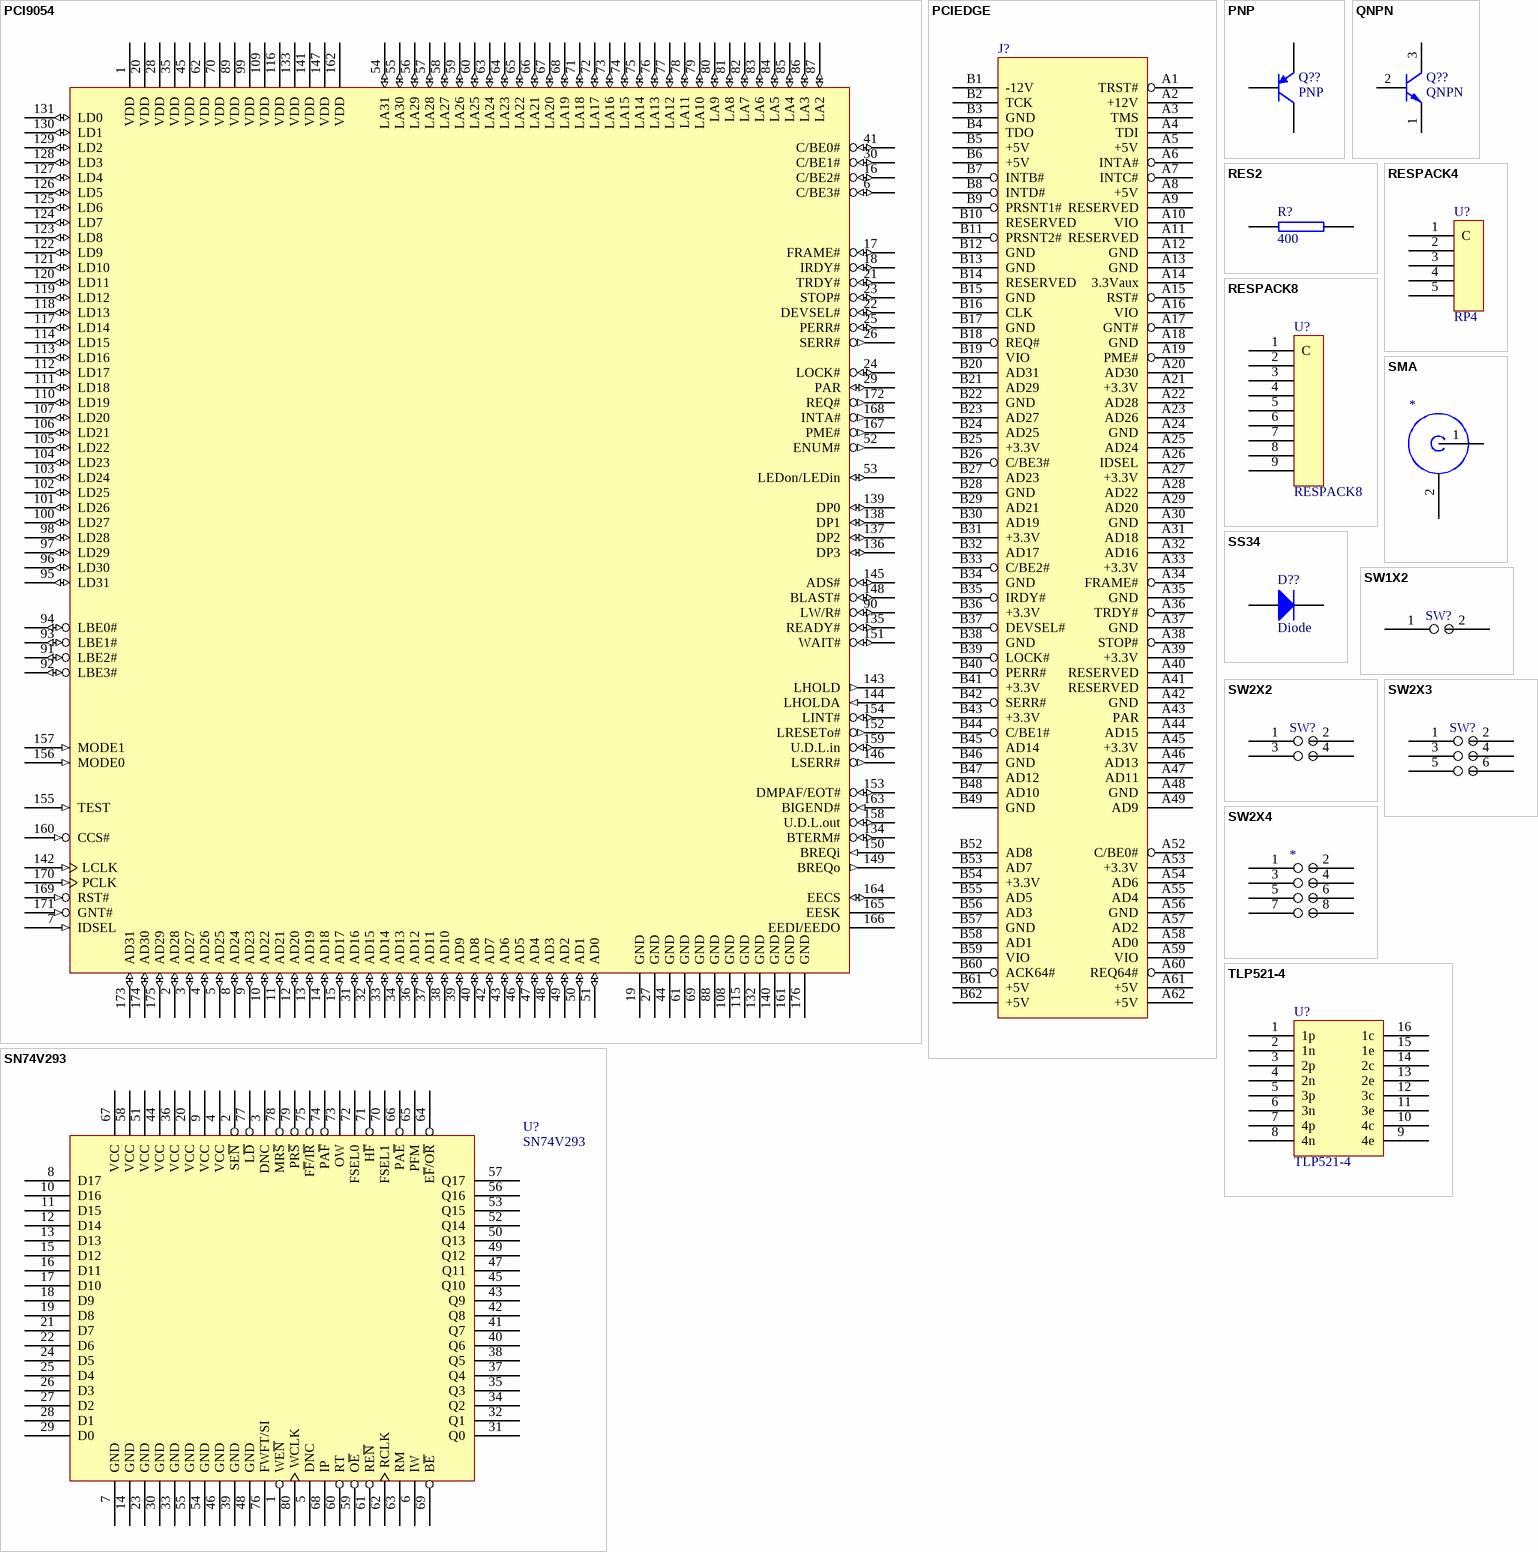
[diagram p8: symbols PCI9054 to TLP521-4]

## PCI9054
designator ?
PCI9054
footprint PQFP176 (Model Description)
pins: 1 VDD (power), 2 AD28 (io), 3 AD27 (io), 4 AD26 (io), 5 AD25 (io), 6 C/BE3# (io), 7 IDSEL (in), 8 AD24 (io), 9 AD23 (io), 10 AD22 (io), 11 AD21 (io), 12 AD20 (io), 13 AD19 (io), 14 AD18 (io), 15 AD17 (io), 16 C/BE2# (io), 17 FRAME# (io), 18 IRDY# (io), 19 GND (power), 20 VDD (power), 21 TRDY# (io), 22 DEVSEL# (io), 23 STOP# (io), 24 LOCK# (io), 25 PERR# (io), 26 SERR# (out), 27 GND (power), 28 VDD (power), 29 PAR (io), 30 C/BE1# (io), 31 AD16 (io), 32 AD15 (io), 33 AD14 (io), 34 AD13 (io), 35 VDD (power), 36 AD12 (io), 37 AD11 (io), 38 AD10 (io), 39 AD9 (io), 40 AD8 (io), 41 C/BE0# (io), 42 AD7 (io), 43 AD6 (io), 44 GND (power), 45 VDD (power), 46 AD5 (io), 47 AD4 (io), 48 AD3 (io), 49 AD2 (io), 50 AD1 (io), 51 AD0 (io), 52 ENUM# (out), 53 LEDon/LEDin (io), 54 LA31 (io), 55 LA30 (io), 56 LA29 (io), 57 LA28 (io), 58 LA27 (io), 59 LA26 (io), 60 LA25 (io), 61 GND (power), 62 VDD (power), 63 LA24 (io), 64 LA23 (io), 65 LA22 (io), 66 LA21 (io), 67 LA20 (io), 68 LA19 (io), 69 GND (power), 70 VDD (power), 71 LA18 (io), 72 LA17 (io), 73 LA16 (io), 74 LA15 (io), 75 LA14 (io), 76 LA13 (io), 77 LA12 (io), 78 LA11 (io), 79 LA10 (io), 80 LA9 (io), 81 LA8 (io), 82 LA7 (io), 83 LA6 (io), 84 LA5 (io), 85 LA4 (io), 86 LA3 (io), 87 LA2 (io), 88 GND, 89 VDD (power), 90 LW/R# (io), 91 LBE2# (io), 92 LBE3# (io), 93 LBE1# (io), 94 LBE0# (io), 95 LD31 (io), 96 LD30 (io), 97 LD29 (io), 98 LD28 (io), 99 VDD (power), 100 LD27 (io), 101 LD26 (io), 102 LD25 (io), 103 LD24 (io), 104 LD23 (io), 105 LD22 (io), 106 LD21 (io), 107 LD20 (io), 108 GND, 109 VDD (power), 110 LD19 (io), 111 LD18 (io), 112 LD17 (io), 113 LD16 (io), 114 LD15 (io), 115 GND, 116 VDD (power), 117 LD14 (io), 118 LD13 (io), 119 LD12 (io), 120 LD11 (io), 121 LD10 (io), 122 LD9 (io), 123 LD8 (io), 124 LD7 (io), 125 LD6 (io), 126 LD5 (io), 127 LD4 (io), 128 LD3 (io), 129 LD2 (io), 130 LD1 (io), 131 LD0 (io), 132 GND, 133 VDD (power), 134 BTERM# (io), 135 READY# (io), 136 DP3 (io), 137 DP2 (io), 138 DP1 (io), 139 DP0 (io), 140 GND, 141 VDD (power), 142 LCLK (in), 143 LHOLD (out), 144 LHOLDA (in), 145 ADS# (io), 146 LSERR# (out), 147 VDD (power), 148 BLAST# (io), 149 BREQo (out), 150 BREQi (in), 151 WAIT# (io), 152 LRESETo# (out), 153 DMPAF/EOT# (io), 154 LINT# (io), 155 TEST (in), 156 MODE0 (in), 157 MODE1 (in), 158 U.D.L.out (io), 159 U.D.L.in (io), 160 CCS# (in), 161 GND (power), 162 VDD (power), 163 BIGEND# (in), 164 EECS (io), 165 EESK, 166 EEDI/EEDO, 167 PME# (out), 168 INTA# (out), 169 RST# (in), 170 PCLK (in), 171 GNT# (in), 172 REQ# (out), 173 AD31 (io), 174 AD30 (io), 175 AD29 (io), 176 GND (power)

## PCIEDGE
designator J?
Part Field 1: 0; Part Field 10: 1000u; Part Field 2: 0; Part Field 3: 0; Part Field 4: 0; Part Field 5: 1; Part Field 6: 0; Part Field 7: 1u; Part Field 8: 1u; Part Field 9: 500u
footprint EC62; pin to pad A2>165
pins: A1 TRST#, A2 +12V, A3 TMS, A4 TDI, A5 +5V, A6 INTA#, A7 INTC#, A8 +5V, A9 RESERVED, A10 VIO, A11 RESERVED, A12 GND, A13 GND, A14 3.3Vaux, A15 RST#, A16 VIO, A17 GNT#, A18 GND, A19 PME#, A20 AD30, A21 +3.3V, A22 AD28, A23 AD26, A24 GND, A25 AD24, A26 IDSEL, A27 +3.3V, A28 AD22, A29 AD20, A30 GND, A31 AD18, A32 AD16, A33 +3.3V, A34 FRAME#, A35 GND, A36 TRDY#, A37 GND, A38 STOP#, A39 +3.3V, A40 RESERVED, A41 RESERVED, A42 GND, A43 PAR, A44 AD15, A45 +3.3V, A46 AD13, A47 AD11, A48 GND, A49 AD9, A52 C/BE0#, A53 +3.3V, A54 AD6, A55 AD4, A56 GND, A57 AD2, A58 AD0, A59 VIO, A60 REQ64#, A61 +5V, A62 +5V, B1 -12V, B2 TCK, B3 GND, B4 TDO, B5 +5V, B6 +5V, B7 INTB#, B8 INTD#, B9 PRSNT1#, B10 RESERVED, B11 PRSNT2#, B12 GND, B13 GND, B14 RESERVED, B15 GND, B16 CLK, B17 GND, B18 REQ#, B19 VIO, B20 AD31, B21 AD29, B22 GND, B23 AD27, B24 AD25, B25 +3.3V, B26 C/BE3#, B27 AD23, B28 GND, B29 AD21, B30 AD19, B31 +3.3V, B32 AD17, B33 C/BE2#, B34 GND, B35 IRDY#, B36 +3.3V, B37 DEVSEL#, B38 GND, B39 LOCK#, B40 PERR#, B41 +3.3V, B42 SERR#, B43 +3.3V, B44 C/BE1#, B45 AD14, B46 GND, B47 AD12, B48 AD10, B49 GND, B52 AD8, B53 AD7, B54 +3.3V, B55 AD5, B56 AD3, B57 GND, B58 AD1, B59 VIO, B60 ACK64#, B61 +5V, B62 +5V

## PNP
designator Q??
PNP Bipolar Transistor; Manufacturer: Generic Components; Class: Discrete; SubClass: BJT - Low Power; Published: 08/06/2000; Publisher: Altium Hobart Technology Centre
footprint SO-G3/C2.5 (SOT-23)
simulation model PNP
signal-integrity model PNP
pins: 1 C, 2 B, 3 E

## QNPN
designator Q??
NPN Bipolar Transistor; Manufacturer: Generic Components; Class: Discrete; SubClass: BJT - Low Power; Published: 08/06/2000; Publisher: Altium Hobart Technology Centre
footprint SO-G3/C2.5 (SOT-23)
simulation model QNPN (NPN)
signal-integrity model NPN
pins: 1 e, 2 b, 3 c

## RES2
designator R?, comment 400
footprint R2012-0805 (0805)
pins: 1, 2

## RESPACK4
designator U?, comment RP4
RESPACK4
footprint HDR1X5 (Model Description)
pins: 1 C, 2, 3, 4, 5

## RESPACK8
designator U?
footprint HDR1X9 (Model Description)
pins: 1 C, 2, 3, 4, 5, 6, 7 (power), 8 (power), 9

## SMA
designator *
footprint SMAKE (Model Description)
footprint SMB_V-RJ45 (Model Description)
pins: 1, 2

## SN74V293
designator U?
footprint TQFP80
pins: 1 WE~{N}, 2 SE~{N}, 3 DNC, 4 VCC, 5 DNC, 6 IW, 7 GND, 8 D17, 9 VCC, 10 D16, 11 D15, 12 D14, 13 D13, 14 GND, 15 D12, 16 D11, 17 D10, 18 D9, 19 D8, 20 VCC, 21 D7, 22 D6, 23 GND, 24 D5, 25 D4, 26 D3, 27 D2, 28 D1, 29 D0, 30 GND, 31 Q0, 32 Q1, 33 GND, 34 Q2, 35 Q3, 36 VCC, 37 Q4, 38 Q5, 39 GND, 40 Q6, 41 Q7, 42 Q8, 43 Q9, 44 VCC, 45 Q10, 46 GND, 47 Q11, 48 GND, 49 Q12, 50 Q13, 51 VCC, 52 Q14, 53 Q15, 54 GND, 55 GND, 56 Q16, 57 Q17, 58 VCC, 59 O~{E}, 60 RT, 61 RE~{N}, 62 RCLK, 63 RM, 64 E~{F}/O~{R}, 65 PFM, 66 PA~{E}, 67 VCC, 68 IP, 69 B~{E}, 70 FSEL1, 71 H~{F}, 72 FSEL0, 73 OW, 74 PA~{F}, 75 F~{F}/I~{R}, 76 FWFT/SI, 77 L~{D}, 78 MR~{S}, 79 PR~{S}, 80 WCLK

## SS34
designator D??, comment Diode
Default Diode; Manufacturer: Generic Components; Class: Discrete; SubClass: Diode - Switching; Published: 08/06/2000; Publisher: Altium Hobart Technology Centre
footprint DSO-C2/X3.3 (DO-214AB)
simulation model DIODE (Diode)
signal-integrity model Diode
footprint 100u
footprint 100u
pins: 1 A, 2 K

## SW1X2
designator SW?
footprint HDR1X2 (Model Description)
pins: 1, 2

## SW2X2
designator SW?
footprint HDR2X2 (Model Description)
pins: 1, 2, 3, 4

## SW2X3
designator SW?
footprint HDR2X3 (Model Description)
pins: 1, 2, 3, 4, 5, 6

## SW2X4
designator *
footprint HDR2X4 (Model Description)
pins: 1, 2, 3, 4, 5, 6, 7, 8

## TLP521-4
designator U?
footprint dip-16 (Model Description)
pins: 1 1p, 2 1n, 3 2p, 4 2n, 5 3p, 6 3n, 7 4p (power), 8 4n (power), 9 4e, 10 4c, 11 3e, 12 3c, 13 2e, 14 2c, 15 1e, 16 1c (power)

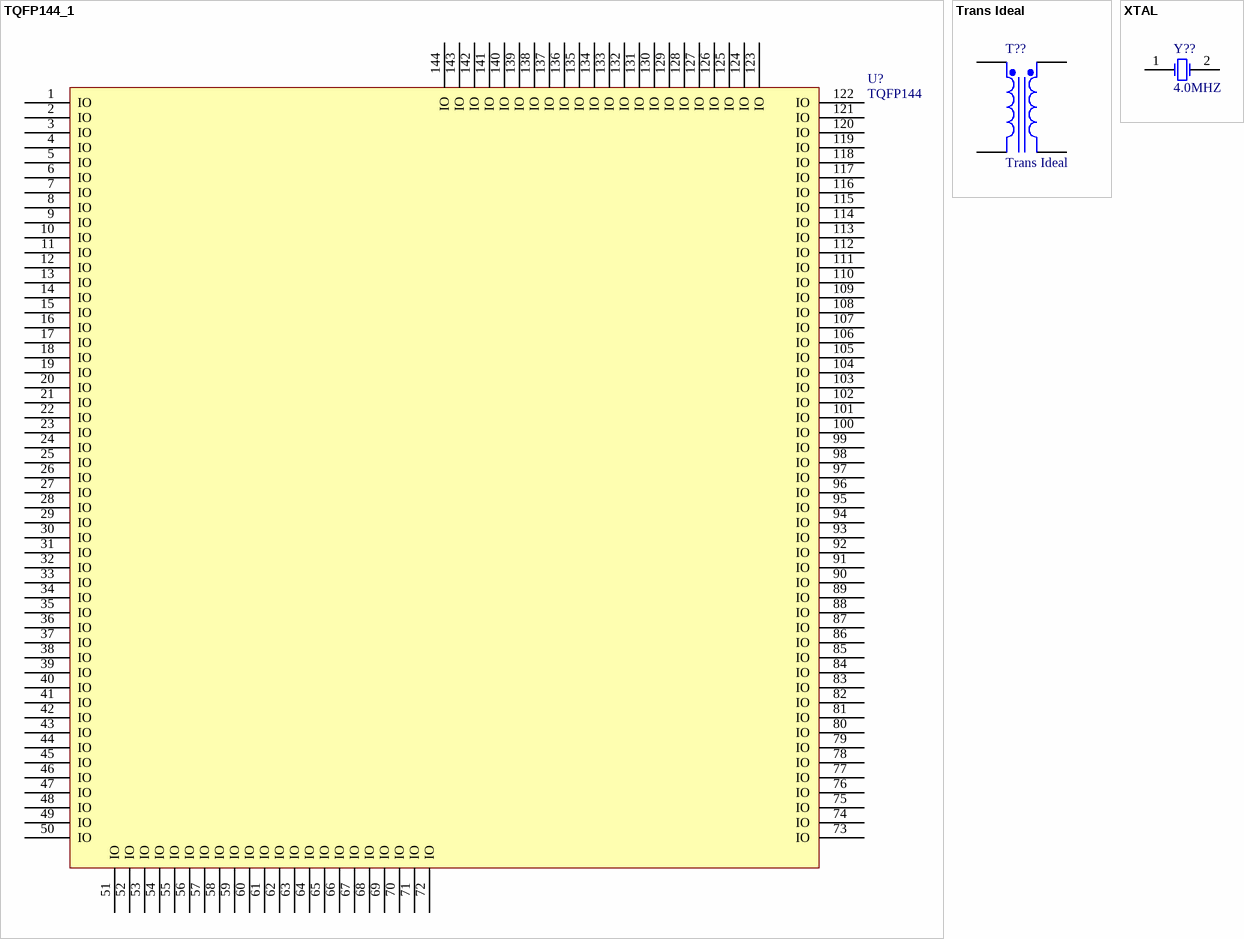
[diagram p9: symbols TQFP144_1 to XTAL]

## TQFP144_1
designator U?, comment TQFP144
footprint F-QFP20X20-G144/N (Model Description)
pins: 1 IO, 2 IO, 3 IO, 4 IO, 5 IO, 6 IO, 7 IO, 8 IO, 9 IO, 10 IO, 11 IO, 12 IO, 13 IO, 14 IO, 15 IO, 16 IO, 17 IO, 18 IO, 19 IO, 20 IO, 21 IO, 22 IO, 23 IO, 24 IO, 25 IO, 26 IO, 27 IO, 28 IO, 29 IO, 30 IO, 31 IO, 32 IO, 33 IO, 34 IO, 35 IO, 36 IO, 37 IO, 38 IO, 39 IO, 40 IO, 41 IO, 42 IO, 43 IO, 44 IO, 45 IO, 46 IO, 47 IO, 48 IO, 49 IO, 50 IO, 51 IO, 52 IO, 53 IO, 54 IO, 55 IO, 56 IO, 57 IO, 58 IO, 59 IO, 60 IO, 61 IO, 62 IO, 63 IO, 64 IO, 65 IO, 66 IO, 67 IO, 68 IO, 69 IO, 70 IO, 71 IO, 72 IO, 73 IO, 74 IO, 75 IO, 76 IO, 77 IO, 78 IO, 79 IO, 80 IO, 81 IO, 82 IO, 83 IO, 84 IO, 85 IO, 86 IO, 87 IO, 88 IO, 89 IO, 90 IO, 91 IO, 92 IO, 93 IO, 94 IO, 95 IO, 96 IO, 97 IO, 98 IO, 99 IO, 100 IO, 101 IO, 102 IO, 103 IO, 104 IO, 105 IO, 106 IO, 107 IO, 108 IO, 109 IO, 110 IO, 111 IO, 112 IO, 113 IO, 114 IO, 115 IO, 116 IO, 117 IO, 118 IO, 119 IO, 120 IO, 121 IO, 122 IO, 123 IO, 124 IO, 125 IO, 126 IO, 127 IO, 128 IO, 129 IO, 130 IO, 131 IO, 132 IO, 133 IO, 134 IO, 135 IO, 136 IO, 137 IO, 138 IO, 139 IO, 140 IO, 141 IO, 142 IO, 143 IO, 144 IO

## Trans Ideal
designator T??
Transformer (Ideal); Manufacturer: Generic Components; Class: Passive; Published: 08/06/2000; Publisher: Altium Hobart Technology Centre; SubClass: Transformer
footprint TRF_4
simulation model IDEALTRANS (Spice Subcircuit)
pins: 1 Pri+, 2 Pri-, 3 Sec+, 4 Sec-

## XTAL
designator Y??, comment 4.0MHZ
Crystal Oscillator; Manufacturer: Generic Components; Published: 08/06/2000; Publisher: Altium Hobart Technology Centre; Class: Oscillator; SubClass: Crystal Oscillator
footprint BCY-W2/D3.1
simulation model XTAL (Spice Subcircuit)
pins: 1 OSC1, 2 OSC2